# Altium schematic symbol library Sockets.SchLib: 49 symbols
Pins are listed as number, name and electrical type; pins without a type are passive.

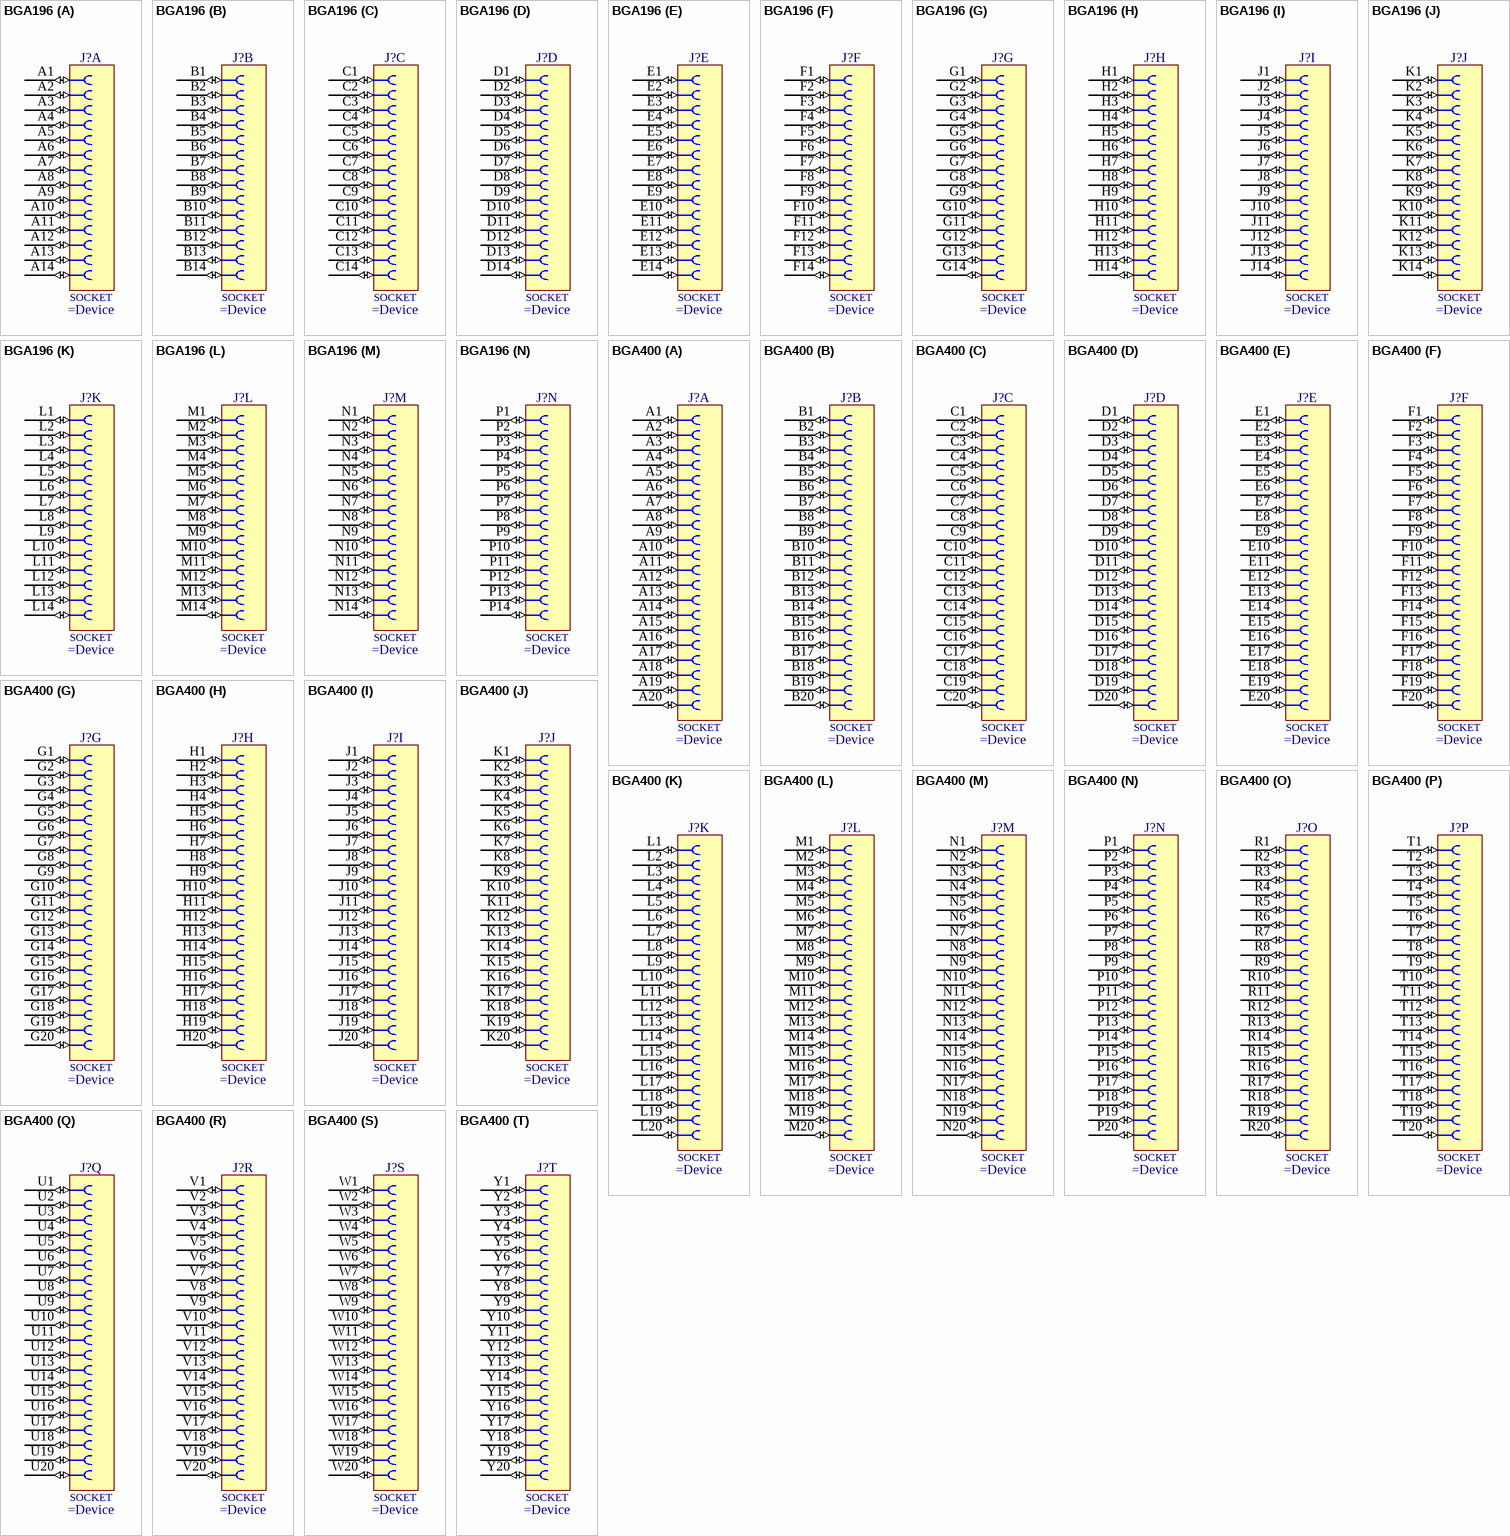
[diagram p0: symbols BGA196 to BGA400]

## BGA196
designator J?
196 Pins, Matrix 14x14, BGA Socket
part A pins: A1 1 (io), A2 2 (io), A3 3 (io), A4 4 (io), A5 5 (io), A6 6 (io), A7 7 (io), A8 8 (io), A9 9 (io), A10 10 (io), A11 11 (io), A12 12 (io), A13 13 (io), A14 14 (io)
part B pins: B1 15 (io), B2 16 (io), B3 17 (io), B4 18 (io), B5 19 (io), B6 20 (io), B7 21 (io), B8 22 (io), B9 23 (io), B10 24 (io), B11 25 (io), B12 26 (io), B13 27 (io), B14 28 (io)
part C pins: C1 29 (io), C2 30 (io), C3 31 (io), C4 32 (io), C5 33 (io), C6 34 (io), C7 35 (io), C8 36 (io), C9 37 (io), C10 38 (io), C11 39 (io), C12 40 (io), C13 41 (io), C14 42 (io)
part D pins: D1 43 (io), D2 44 (io), D3 45 (io), D4 46 (io), D5 47 (io), D6 48 (io), D7 49 (io), D8 50 (io), D9 51 (io), D10 52 (io), D11 53 (io), D12 54 (io), D13 55 (io), D14 56 (io)
part E pins: E1 57 (io), E2 58 (io), E3 59 (io), E4 60 (io), E5 61 (io), E6 62 (io), E7 63 (io), E8 64 (io), E9 65 (io), E10 66 (io), E11 67 (io), E12 68 (io), E13 69 (io), E14 70 (io)
part F pins: F1 71 (io), F2 72 (io), F3 73 (io), F4 74 (io), F5 75 (io), F6 76 (io), F7 77 (io), F8 78 (io), F9 79 (io), F10 80 (io), F11 81 (io), F12 82 (io), F13 83 (io), F14 84 (io)
part G pins: G1 85 (io), G2 86 (io), G3 87 (io), G4 88 (io), G5 89 (io), G6 90 (io), G7 91 (io), G8 92 (io), G9 93 (io), G10 94 (io), G11 95 (io), G12 96 (io), G13 97 (io), G14 98 (io)
part H pins: H1 99 (io), H2 10 (io), H3 101 (io), H4 102 (io), H5 103 (io), H6 104 (io), H7 105 (io), H8 106 (io), H9 107 (io), H10 108 (io), H11 109 (io), H12 110 (io), H13 111 (io), H14 112 (io)
part I pins: J1 113 (io), J2 114 (io), J3 115 (io), J4 116 (io), J5 117 (io), J6 118 (io), J7 119 (io), J8 120 (io), J9 121 (io), J10 122 (io), J11 123 (io), J12 124 (io), J13 125 (io), J14 126 (io)
part J pins: K1 127 (io), K2 128 (io), K3 129 (io), K4 130 (io), K5 131 (io), K6 132 (io), K7 133 (io), K8 134 (io), K9 135 (io), K10 136 (io), K11 137 (io), K12 138 (io), K13 139 (io), K14 140 (io)
part K pins: L1 141 (io), L2 142 (io), L3 143 (io), L4 144 (io), L5 145 (io), L6 146 (io), L7 147 (io), L8 148 (io), L9 149 (io), L10 150 (io), L11 151 (io), L12 152 (io), L13 153 (io), L14 154 (io)
part L pins: M1 155 (io), M2 156 (io), M3 157 (io), M4 158 (io), M5 159 (io), M6 160 (io), M7 161 (io), M8 162 (io), M9 163 (io), M10 164 (io), M11 165 (io), M12 166 (io), M13 167 (io), M14 168 (io)
part M pins: N1 169 (io), N2 170 (io), N3 171 (io), N4 172 (io), N5 173 (io), N6 174 (io), N7 175 (io), N8 176 (io), N9 177 (io), N10 178 (io), N11 179 (io), N12 180 (io), N13 181 (io), N14 182 (io)
part N pins: P1 183 (io), P2 184 (io), P3 185 (io), P4 186 (io), P5 187 (io), P6 188 (io), P7 189 (io), P8 190 (io), P9 191 (io), P10 192 (io), P11 193 (io), P12 194 (io), P13 195 (io), P14 196 (io)
part A text: SOCKET
part B text: SOCKET
part C text: SOCKET
part D text: SOCKET
part E text: SOCKET
part F text: SOCKET
part G text: SOCKET
part H text: SOCKET
part I text: SOCKET
part J text: SOCKET
part K text: SOCKET
part L text: SOCKET
part M text: SOCKET
part N text: SOCKET

## BGA400
designator J?
400 Pins, Matrix 20x20, BGA Quick Lock Socket
part A pins: A1 1 (io), A2 2 (io), A3 3 (io), A4 4 (io), A5 5 (io), A6 6 (io), A7 7 (io), A8 8 (io), A9 9 (io), A10 10 (io), A11 11 (io), A12 12 (io), A13 13 (io), A14 14 (io), A15 15 (io), A16 16 (io), A17 17 (io), A18 18 (io), A19 19 (io), A20 20 (io)
part B pins: B1 21 (io), B2 22 (io), B3 23 (io), B4 24 (io), B5 25 (io), B6 26 (io), B7 27 (io), B8 28 (io), B9 29 (io), B10 30 (io), B11 31 (io), B12 32 (io), B13 33 (io), B14 34 (io), B15 35 (io), B16 36 (io), B17 37 (io), B18 38 (io), B19 39 (io), B20 40 (io)
part C pins: C1 41 (io), C2 42 (io), C3 43 (io), C4 44 (io), C5 45 (io), C6 46 (io), C7 47 (io), C8 48 (io), C9 49 (io), C10 50 (io), C11 51 (io), C12 52 (io), C13 53 (io), C14 54 (io), C15 55 (io), C16 56 (io), C17 57 (io), C18 58 (io), C19 59 (io), C20 60 (io)
part D pins: D1 61 (io), D2 62 (io), D3 63 (io), D4 64 (io), D5 65 (io), D6 66 (io), D7 67 (io), D8 68 (io), D9 69 (io), D10 70 (io), D11 71 (io), D12 72 (io), D13 73 (io), D14 74 (io), D15 75 (io), D16 76 (io), D17 77 (io), D18 78 (io), D19 79 (io), D20 80 (io)
part E pins: E1 81 (io), E2 82 (io), E3 83 (io), E4 84 (io), E5 85 (io), E6 86 (io), E7 87 (io), E8 88 (io), E9 89 (io), E10 90 (io), E11 91 (io), E12 92 (io), E13 93 (io), E14 94 (io), E15 95 (io), E16 96 (io), E17 97 (io), E18 98 (io), E19 99 (io), E20 100 (io)
part F pins: F1 101 (io), F2 102 (io), F3 103 (io), F4 104 (io), F5 105 (io), F6 106 (io), F7 107 (io), F8 108 (io), F9 109 (io), F10 110 (io), F11 111 (io), F12 112 (io), F13 113 (io), F14 114 (io), F15 115 (io), F16 116 (io), F17 117 (io), F18 118 (io), F19 119 (io), F20 120 (io)
part G pins: G1 121 (io), G2 122 (io), G3 123 (io), G4 124 (io), G5 125 (io), G6 126 (io), G7 127 (io), G8 128 (io), G9 129 (io), G10 130 (io), G11 131 (io), G12 132 (io), G13 133 (io), G14 134 (io), G15 135 (io), G16 136 (io), G17 137 (io), G18 138 (io), G19 139 (io), G20 140 (io)
part H pins: H1 141 (io), H2 142 (io), H3 143 (io), H4 144 (io), H5 145 (io), H6 146 (io), H7 147 (io), H8 148 (io), H9 149 (io), H10 150 (io), H11 151 (io), H12 152 (io), H13 153 (io), H14 154 (io), H15 155 (io), H16 156 (io), H17 157 (io), H18 158 (io), H19 159 (io), H20 160 (io)
part I pins: J1 161 (io), J2 162 (io), J3 163 (io), J4 164 (io), J5 165 (io), J6 166 (io), J7 167 (io), J8 168 (io), J9 169 (io), J10 170 (io), J11 171 (io), J12 172 (io), J13 173 (io), J14 174 (io), J15 175 (io), J16 176 (io), J17 177 (io), J18 178 (io), J19 179 (io), J20 180 (io)
part J pins: K1 181 (io), K2 182 (io), K3 183 (io), K4 184 (io), K5 185 (io), K6 186 (io), K7 187 (io), K8 188 (io), K9 189 (io), K10 190 (io), K11 191 (io), K12 192 (io), K13 193 (io), K14 194 (io), K15 195 (io), K16 196 (io), K17 197 (io), K18 198 (io), K19 199 (io), K20 200 (io)
part K pins: L1 201 (io), L2 202 (io), L3 203 (io), L4 204 (io), L5 205 (io), L6 206 (io), L7 207 (io), L8 208 (io), L9 209 (io), L10 210 (io), L11 211 (io), L12 212 (io), L13 213 (io), L14 214 (io), L15 215 (io), L16 216 (io), L17 217 (io), L18 218 (io), L19 219 (io), L20 220 (io)
part L pins: M1 221 (io), M2 222 (io), M3 223 (io), M4 224 (io), M5 225 (io), M6 226 (io), M7 227 (io), M8 228 (io), M9 229 (io), M10 230 (io), M11 231 (io), M12 232 (io), M13 233 (io), M14 234 (io), M15 235 (io), M16 236 (io), M17 237 (io), M18 238 (io), M19 239 (io), M20 240 (io)
part M pins: N1 241 (io), N2 242 (io), N3 243 (io), N4 244 (io), N5 245 (io), N6 246 (io), N7 247 (io), N8 248 (io), N9 249 (io), N10 250 (io), N11 251 (io), N12 252 (io), N13 253 (io), N14 254 (io), N15 255 (io), N16 256 (io), N17 257 (io), N18 258 (io), N19 259 (io), N20 260 (io)
part N pins: P1 261 (io), P2 262 (io), P3 263 (io), P4 264 (io), P5 265 (io), P6 266 (io), P7 267 (io), P8 268 (io), P9 269 (io), P10 270 (io), P11 271 (io), P12 272 (io), P13 273 (io), P14 274 (io), P15 275 (io), P16 276 (io), P17 277 (io), P18 278 (io), P19 279 (io), P20 280 (io)
part O pins: R1 281 (io), R2 282 (io), R3 283 (io), R4 284 (io), R5 285 (io), R6 286 (io), R7 287 (io), R8 288 (io), R9 289 (io), R10 290 (io), R11 291 (io), R12 292 (io), R13 293 (io), R14 294 (io), R15 295 (io), R16 296 (io), R17 297 (io), R18 298 (io), R19 299 (io), R20 300 (io)
part P pins: T1 301 (io), T2 302 (io), T3 303 (io), T4 304 (io), T5 305 (io), T6 306 (io), T7 307 (io), T8 308 (io), T9 309 (io), T10 310 (io), T11 311 (io), T12 312 (io), T13 313 (io), T14 314 (io), T15 315 (io), T16 316 (io), T17 317 (io), T18 318 (io), T19 319 (io), T20 320 (io)
part Q pins: U1 321 (io), U2 322 (io), U3 323 (io), U4 324 (io), U5 325 (io), U6 326 (io), U7 327 (io), U8 328 (io), U9 329 (io), U10 330 (io), U11 331 (io), U12 332 (io), U13 333 (io), U14 334 (io), U15 335 (io), U16 336 (io), U17 337 (io), U18 338 (io), U19 339 (io), U20 340 (io)
part R pins: V1 341 (io), V2 342 (io), V3 343 (io), V4 344 (io), V5 345 (io), V6 346 (io), V7 347 (io), V8 348 (io), V9 349 (io), V10 350 (io), V11 351 (io), V12 352 (io), V13 353 (io), V14 354 (io), V15 355 (io), V16 356 (io), V17 357 (io), V18 358 (io), V19 359 (io), V20 360 (io)
part S pins: W1 361 (io), W2 362 (io), W3 363 (io), W4 364 (io), W5 365 (io), W6 366 (io), W7 367 (io), W8 368 (io), W9 369 (io), W10 370 (io), W11 371 (io), W12 372 (io), W13 373 (io), W14 374 (io), W15 375 (io), W16 376 (io), W17 377 (io), W18 378 (io), W19 379 (io), W20 380 (io)
part T pins: Y1 381 (io), Y2 382 (io), Y3 383 (io), Y4 384 (io), Y5 385 (io), Y6 386 (io), Y7 387 (io), Y8 388 (io), Y9 389 (io), Y10 390 (io), Y11 391 (io), Y12 392 (io), Y13 393 (io), Y14 394 (io), Y15 395 (io), Y16 396 (io), Y17 397 (io), Y18 398 (io), Y19 399 (io), Y20 400 (io)
part A text: SOCKET
part B text: SOCKET
part C text: SOCKET
part D text: SOCKET
part E text: SOCKET
part F text: SOCKET
part G text: SOCKET
part H text: SOCKET
part I text: SOCKET
part J text: SOCKET
part K text: SOCKET
part L text: SOCKET
part M text: SOCKET
part N text: SOCKET
part O text: SOCKET
part P text: SOCKET
part Q text: SOCKET
part R text: SOCKET
part S text: SOCKET
part T text: SOCKET

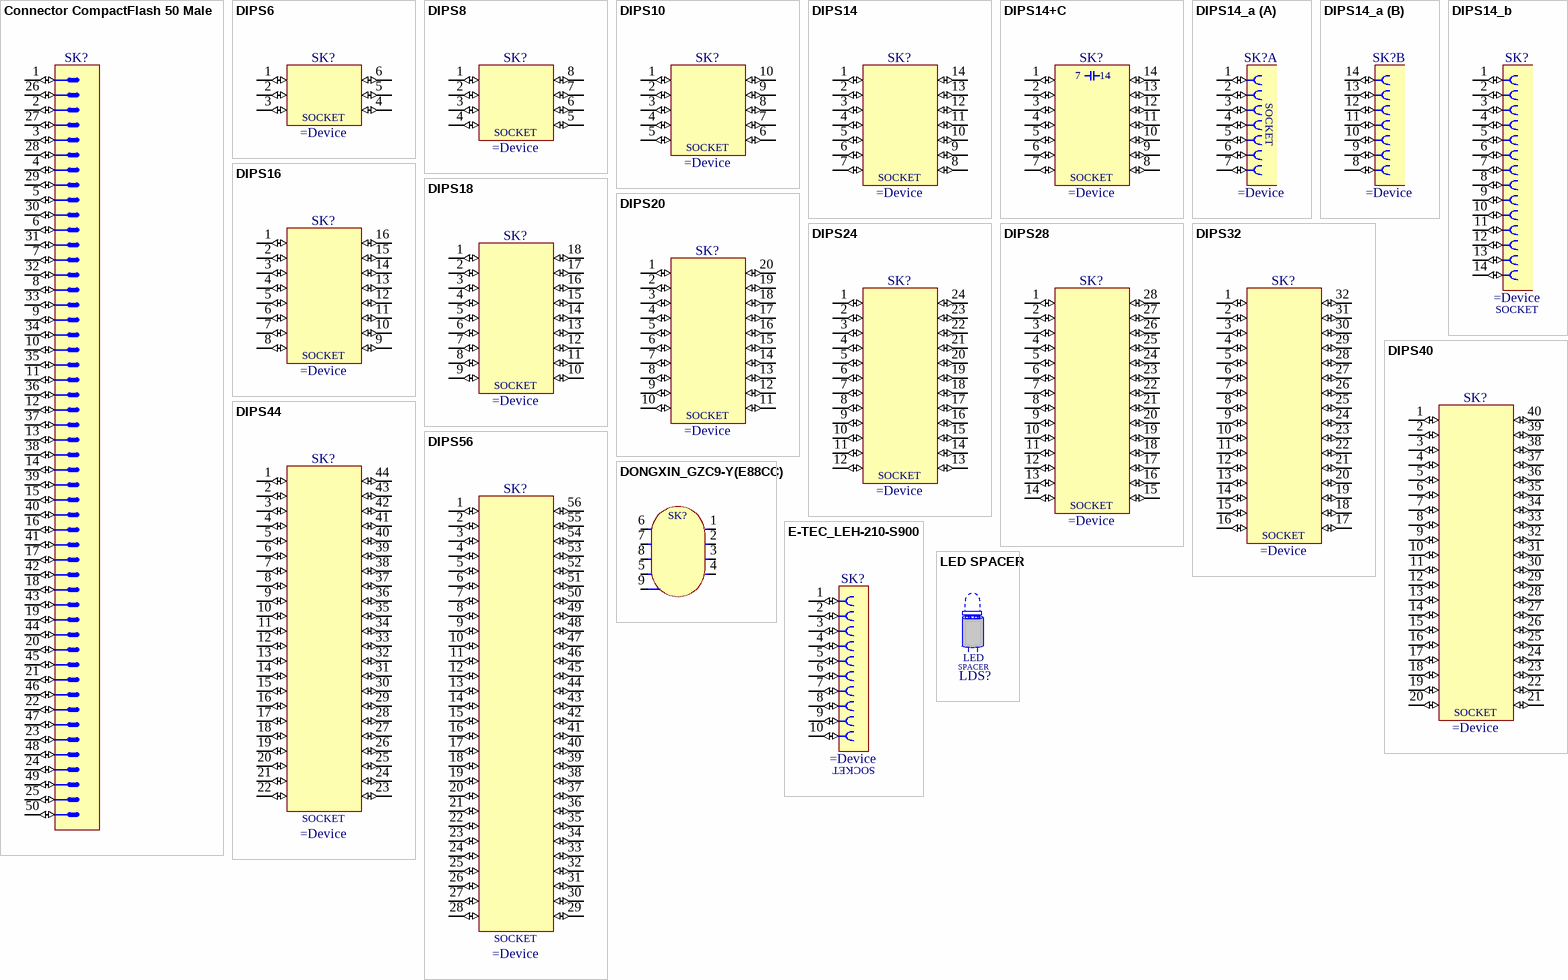
[diagram p1: symbols Connector CompactFlash 50 Male to LED SPACER]

## Connector CompactFlash 50 Male
designator SK?
Connector CompactFlash 50 Male
pins: 1 (io), 2 (io), 3 (io), 4 (io), 5 (io), 6 (io), 7 (io), 8 (io), 9 (io), 10 (io), 11 (io), 12 (io), 13 (io), 14 (io), 15 (io), 16 (io), 17 (io), 18 (io), 19 (io), 20 (io), 21 (io), 22 (io), 23 (io), 24 (io), 25 (io), 26 (io), 27 (io), 28 (io), 29 (io), 30 (io), 31 (io), 32 (io), 33 (io), 34 (io), 35 (io), 36 (io), 37 (io), 38 (io), 39 (io), 40 (io), 41 (io), 42 (io), 43 (io), 44 (io), 45 (io), 46 (io), 47 (io), 48 (io), 49 (io), 50 (io)
1 alternate drawing of the same symbol

## DIPS6
designator SK?
DIL Socket 6 Leads
pins: 1 (io), 2 (io), 3 (io), 4 (io), 5 (io), 6 (io)
text: SOCKET

## DIPS8
designator SK?
DIL Socket 8 Leads
pins: 1 (io), 2 (io), 3 (io), 4 (io), 5 (io), 6 (io), 7 (io), 8 (io)
text: SOCKET

## DIPS10
designator SK?
DIL Socket 10 Leads
pins: 1 (io), 2 (io), 3 (io), 4 (io), 5 (io), 6 (io), 7 (io), 8 (io), 9 (io), 10 (io)
text: SOCKET

## DIPS14
designator SK?
DIL Socket 14 Leads
pins: 1 (io), 2 (io), 3 (io), 4 (io), 5 (io), 6 (io), 7 (io), 8 (io), 9 (io), 10 (io), 11 (io), 12 (io), 13 (io), 14 (io)
text: SOCKET

## DIPS14+C
designator SK?
DIL Socket 14 Leads with Decoupling Capacitor
pins: 1 (io), 2 (io), 3 (io), 4 (io), 5 (io), 6 (io), 7 (io), 8 (io), 9 (io), 10 (io), 11 (io), 12 (io), 13 (io), 14 (io)
text: SOCKET

## DIPS14_a
designator SK?
Horizontal DIP Socket 14 Leads, Row Spacing 7.62mm; Pitch 2.54 mm
part A pins: 1 (io), 2 (io), 3 (io), 4 (io), 5 (io), 6 (io), 7 (io)
part B pins: 8 (io), 9 (io), 10 (io), 11 (io), 12 (io), 13 (io), 14 (io)
part A text: SOCKET

## DIPS14_b
designator SK?
DIL Socket 14 Leads
pins: 1 (io), 2 (io), 3 (io), 4 (io), 5 (io), 6 (io), 7 (io), 8 (io), 9 (io), 10 (io), 11 (io), 12 (io), 13 (io), 14 (io)
text: SOCKET

## DIPS16
designator SK?
DIL Socket 16 Leads
pins: 1 (io), 2 (io), 3 (io), 4 (io), 5 (io), 6 (io), 7 (io), 8 (io), 9 (io), 10 (io), 11 (io), 12 (io), 13 (io), 14 (io), 15 (io), 16 (io)
text: SOCKET

## DIPS18
designator SK?
DIL Socket 18 Leads
pins: 1 (io), 2 (io), 3 (io), 4 (io), 5 (io), 6 (io), 7 (io), 8 (io), 9 (io), 10 (io), 11 (io), 12 (io), 13 (io), 14 (io), 15 (io), 16 (io), 17 (io), 18 (io)
text: SOCKET

## DIPS20
designator SK?
DIL Socket 20 Leads
pins: 1 (io), 2 (io), 3 (io), 4 (io), 5 (io), 6 (io), 7 (io), 8 (io), 9 (io), 10 (io), 11 (io), 12 (io), 13 (io), 14 (io), 15 (io), 16 (io), 17 (io), 18 (io), 19 (io), 20 (io)
text: SOCKET

## DIPS24
designator SK?
DIL Socket 24 Leads
pins: 1 (io), 2 (io), 3 (io), 4 (io), 5 (io), 6 (io), 7 (io), 8 (io), 9 (io), 10 (io), 11 (io), 12 (io), 13 (io), 14 (io), 15 (io), 16 (io), 17 (io), 18 (io), 19 (io), 20 (io), 21 (io), 22 (io), 23 (io), 24 (io)
text: SOCKET

## DIPS28
designator SK?
DIL Socket 28 Leads
pins: 1 (io), 2 (io), 3 (io), 4 (io), 5 (io), 6 (io), 7 (io), 8 (io), 9 (io), 10 (io), 11 (io), 12 (io), 13 (io), 14 (io), 15 (io), 16 (io), 17 (io), 18 (io), 19 (io), 20 (io), 21 (io), 22 (io), 23 (io), 24 (io), 25 (io), 26 (io), 27 (io), 28 (io)
text: SOCKET

## DIPS32
designator SK?
DIL Socket 32 Leads
pins: 1 (io), 2 (io), 3 (io), 4 (io), 5 (io), 6 (io), 7 (io), 8 (io), 9 (io), 10 (io), 11 (io), 12 (io), 13 (io), 14 (io), 15 (io), 16 (io), 17 (io), 18 (io), 19 (io), 20 (io), 21 (io), 22 (io), 23 (io), 24 (io), 25 (io), 26 (io), 27 (io), 28 (io), 29 (io), 30 (io), 31 (io), 32 (io)
text: SOCKET

## DIPS40
designator SK?
DIL Socket 40 Leads
pins: 1 (io), 2 (io), 3 (io), 4 (io), 5 (io), 6 (io), 7 (io), 8 (io), 9 (io), 10 (io), 11 (io), 12 (io), 13 (io), 14 (io), 15 (io), 16 (io), 17 (io), 18 (io), 19 (io), 20 (io), 21 (io), 22 (io), 23 (io), 24 (io), 25 (io), 26 (io), 27 (io), 28 (io), 29 (io), 30 (io), 31 (io), 32 (io), 33 (io), 34 (io), 35 (io), 36 (io), 37 (io), 38 (io), 39 (io), 40 (io)
text: SOCKET

## DIPS44
designator SK?
DIL Socket 44 Leads
pins: 1 (io), 2 (io), 3 (io), 4 (io), 5 (io), 6 (io), 7 (io), 8 (io), 9 (io), 10 (io), 11 (io), 12 (io), 13 (io), 14 (io), 15 (io), 16 (io), 17 (io), 18 (io), 19 (io), 20 (io), 21 (io), 22 (io), 23 (io), 24 (io), 25 (io), 26 (io), 27 (io), 28 (io), 29 (io), 30 (io), 31 (io), 32 (io), 33 (io), 34 (io), 35 (io), 36 (io), 37 (io), 38 (io), 39 (io), 40 (io), 41 (io), 42 (io), 43 (io), 44 (io)
text: SOCKET

## DIPS56
designator SK?
DIL Socket 56 Leads
pins: 1 (io), 2 (io), 3 (io), 4 (io), 5 (io), 6 (io), 7 (io), 8 (io), 9 (io), 10 (io), 11 (io), 12 (io), 13 (io), 14 (io), 15 (io), 16 (io), 17 (io), 18 (io), 19 (io), 20 (io), 21 (io), 22 (io), 23 (io), 24 (io), 25 (io), 26 (io), 27 (io), 28 (io), 29 (io), 30 (io), 31 (io), 32 (io), 33 (io), 34 (io), 35 (io), 36 (io), 37 (io), 38 (io), 39 (io), 40 (io), 41 (io), 42 (io), 43 (io), 44 (io), 45 (io), 46 (io), 47 (io), 48 (io), 49 (io), 50 (io), 51 (io), 52 (io), 53 (io), 54 (io), 55 (io), 56 (io)
text: SOCKET

## DONGXIN_GZC9-Y(E88CC)
designator SK?
DONGXIN_GZC9-Y for E88CC Triode
pins: 1 a', 2 g', 3 k', 4 f, 5 f, 6 a, 7 g, 8 k, 9 fc

## E-TEC_LEH-210-S900
designator SK?
Horizontal DIP Socket 10 Leads, Row Spacing 5.08 mm; Pitch 2.54 mm
pins: 1 (io), 2 (io), 3 (io), 4 (io), 5 (io), 6 (io), 7 (io), 8 (io), 9 (io), 10 (io)
text: SOCKET

## LED SPACER
designator LDS?
LED Orange 1C 2A
text: LED; SPACER

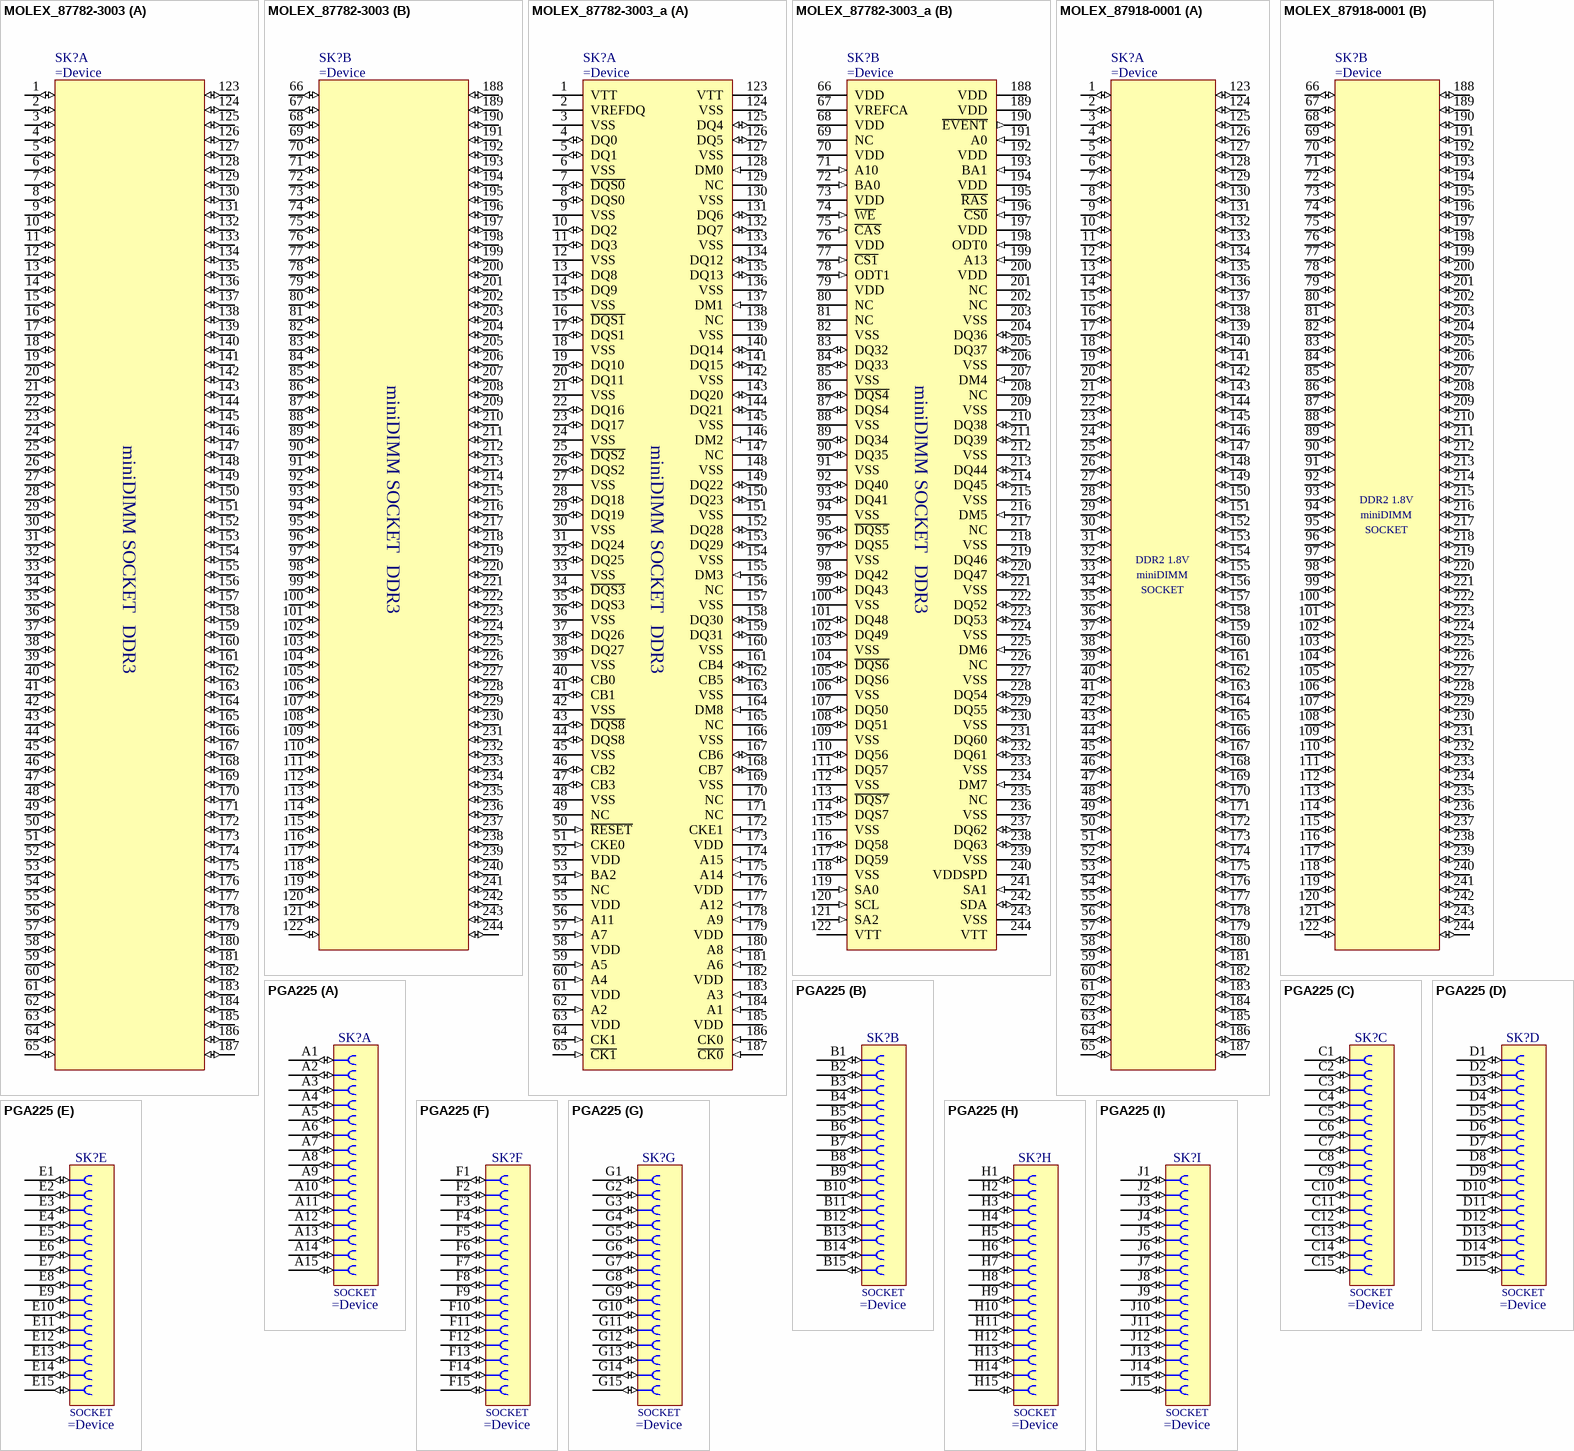
[diagram p2: symbols MOLEX_87782-3003 to PGA225]

## MOLEX_87782-3003
designator SK?
Vertical 244 Positions miniDIMM DDR3 Socket
part A pins: 1 (io), 2 (io), 3 (io), 4 (io), 5 (io), 6 (io), 7 (io), 8 (io), 9 (io), 10 (io), 11 (io), 12 (io), 13 (io), 14 (io), 15 (io), 16 (io), 17 (io), 18 (io), 19 (io), 20 (io), 21 (io), 22 (io), 23 (io), 24 (io), 25 (io), 26 (io), 27 (io), 28 (io), 29 (io), 30 (io), 31 (io), 32 (io), 33 (io), 34 (io), 35 (io), 36 (io), 37 (io), 38 (io), 39 (io), 40 (io), 41 (io), 42 (io), 43 (io), 44 (io), 45 (io), 46 (io), 47 (io), 48 (io), 49 (io), 50 (io), 51 (io), 52 (io), 53 (io), 54 (io), 55 (io), 56 (io), 57 (io), 58 (io), 59 (io), 60 (io), 61 (io), 62 (io), 63 (io), 64 (io), 65 (io), 123 (io), 124 (io), 125 (io), 126 (io), 127 (io), 128 (io), 129 (io), 130 (io), 131 (io), 132 (io), 133 (io), 134 (io), 135 (io), 136 (io), 137 (io), 138 (io), 139 (io), 140 (io), 141 (io), 142 (io), 143 (io), 144 (io), 145 (io), 146 (io), 147 (io), 148 (io), 149 (io), 150 (io), 151 (io), 152 (io), 153 (io), 154 (io), 155 (io), 156 (io), 157 (io), 158 (io), 159 (io), 160 (io), 161 (io), 162 (io), 163 (io), 164 (io), 165 (io), 166 (io), 167 (io), 168 (io), 169 (io), 170 (io), 171 (io), 172 (io), 173 (io), 174 (io), 175 (io), 176 (io), 177 (io), 178 (io), 179 (io), 180 (io), 181 (io), 182 (io), 183 (io), 184 (io), 185 (io), 186 (io), 187 (io)
part B pins: 66 (io), 67 (io), 68 (io), 69 (io), 70 (io), 71 (io), 72 (io), 73 (io), 74 (io), 75 (io), 76 (io), 77 (io), 78 (io), 79 (io), 80 (io), 81 (io), 82 (io), 83 (io), 84 (io), 85 (io), 86 (io), 87 (io), 88 (io), 89 (io), 90 (io), 91 (io), 92 (io), 93 (io), 94 (io), 95 (io), 96 (io), 97 (io), 98 (io), 99 (io), 100 (io), 101 (io), 102 (io), 103 (io), 104 (io), 105 (io), 106 (io), 107 (io), 108 (io), 109 (io), 110 (io), 111 (io), 112 (io), 113 (io), 114 (io), 115 (io), 116 (io), 117 (io), 118 (io), 119 (io), 120 (io), 121 (io), 122 (io), 188 (io), 189 (io), 190 (io), 191 (io), 192 (io), 193 (io), 194 (io), 195 (io), 196 (io), 197 (io), 198 (io), 199 (io), 200 (io), 201 (io), 202 (io), 203 (io), 204 (io), 205 (io), 206 (io), 207 (io), 208 (io), 209 (io), 210 (io), 211 (io), 212 (io), 213 (io), 214 (io), 215 (io), 216 (io), 217 (io), 218 (io), 219 (io), 220 (io), 221 (io), 222 (io), 223 (io), 224 (io), 225 (io), 226 (io), 227 (io), 228 (io), 229 (io), 230 (io), 231 (io), 232 (io), 233 (io), 234 (io), 235 (io), 236 (io), 237 (io), 238 (io), 239 (io), 240 (io), 241 (io), 242 (io), 243 (io), 244 (io)
part A text: miniDIMM SOCKET; DDR3
part B text: miniDIMM SOCKET; DDR3

## MOLEX_87782-3003_a
designator SK?
Vertical 244 Positions miniDIMM DDR3 Socket
part A pins: 1 VTT (power), 2 VREFDQ (power), 3 VSS (power), 4 DQ0 (io), 5 DQ1 (io), 6 VSS (power), 7 ~{DQS0} (io), 8 DQS0 (io), 9 VSS (power), 10 DQ2 (io), 11 DQ3 (io), 12 VSS (power), 13 DQ8 (io), 14 DQ9 (io), 15 VSS (power), 16 ~{DQS1} (io), 17 DQS1 (io), 18 VSS (power), 19 DQ10 (io), 20 DQ11 (io), 21 VSS (power), 22 DQ16 (io), 23 DQ17 (io), 24 VSS (power), 25 ~{DQS2} (io), 26 DQS2 (io), 27 VSS (power), 28 DQ18 (io), 29 DQ19 (io), 30 VSS (power), 31 DQ24 (io), 32 DQ25 (io), 33 VSS (power), 34 ~{DQS3} (io), 35 DQS3 (io), 36 VSS (power), 37 DQ26 (io), 38 DQ27 (io), 39 VSS (power), 40 CB0 (io), 41 CB1 (io), 42 VSS (power), 43 ~{DQS8} (io), 44 DQS8 (io), 45 VSS (power), 46 CB2 (io), 47 CB3 (io), 48 VSS (power), 49 NC, 50 ~{RESET} (in), 51 CKE0 (in), 52 VDD (power), 53 BA2 (in), 54 NC, 55 VDD (power), 56 A11 (in), 57 A7 (in), 58 VDD (power), 59 A5 (in), 60 A4 (in), 61 VDD (power), 62 A2 (in), 63 VDD (power), 64 CK1 (in), 65 ~{CK1} (in), 123 VTT (power), 124 VSS (power), 125 DQ4 (io), 126 DQ5 (io), 127 VSS (power), 128 DM0 (in), 129 NC, 130 VSS (power), 131 DQ6 (io), 132 DQ7 (io), 133 VSS (power), 134 DQ12 (io), 135 DQ13 (io), 136 VSS (power), 137 DM1 (in), 138 NC, 139 VSS (power), 140 DQ14 (io), 141 DQ15 (io), 142 VSS (power), 143 DQ20 (io), 144 DQ21 (io), 145 VSS (power), 146 DM2 (in), 147 NC, 148 VSS (power), 149 DQ22 (io), 150 DQ23 (io), 151 VSS (power), 152 DQ28 (io), 153 DQ29 (io), 154 VSS (power), 155 DM3 (in), 156 NC, 157 VSS (power), 158 DQ30 (io), 159 DQ31 (io), 160 VSS (power), 161 CB4 (io), 162 CB5 (io), 163 VSS (power), 164 DM8 (in), 165 NC, 166 VSS (power), 167 CB6 (io), 168 CB7 (io), 169 VSS (power), 170 NC, 171 NC, 172 CKE1 (in), 173 VDD (power), 174 A15 (in), 175 A14 (in), 176 VDD (power), 177 A12 (in), 178 A9 (in), 179 VDD (power), 180 A8 (in), 181 A6 (in), 182 VDD (power), 183 A3 (in), 184 A1 (in), 185 VDD (power), 186 CK0 (in), 187 ~{CK0} (in)
part B pins: 66 VDD (power), 67 VREFCA (power), 68 VDD (power), 69 NC, 70 VDD (power), 71 A10 (in), 72 BA0 (in), 73 VDD (power), 74 ~{WE} (in), 75 ~{CAS} (in), 76 VDD (power), 77 ~{CS1} (in), 78 ODT1 (in), 79 VDD (power), 80 NC, 81 NC, 82 VSS (power), 83 DQ32 (io), 84 DQ33 (io), 85 VSS (power), 86 ~{DQS4} (io), 87 DQS4 (io), 88 VSS (power), 89 DQ34 (io), 90 DQ35 (io), 91 VSS (power), 92 DQ40 (io), 93 DQ41 (io), 94 VSS (power), 95 ~{DQS5} (io), 96 DQS5 (io), 97 VSS (power), 98 DQ42 (io), 99 DQ43 (io), 100 VSS (power), 101 DQ48 (io), 102 DQ49 (io), 103 VSS (power), 104 ~{DQS6} (io), 105 DQS6 (io), 106 VSS (power), 107 DQ50 (io), 108 DQ51 (io), 109 VSS (power), 110 DQ56 (io), 111 DQ57 (io), 112 VSS (power), 113 ~{DQS7} (io), 114 DQS7 (io), 115 VSS (power), 116 DQ58 (io), 117 DQ59 (io), 118 VSS (power), 119 SA0 (in), 120 SCL (in), 121 SA2 (in), 122 VTT (power), 188 VDD (power), 189 VDD (power), 190 ~{EVENT} (out), 191 A0 (in), 192 VDD (power), 193 BA1 (in), 194 VDD (power), 195 ~{RAS} (in), 196 ~{CS0} (in), 197 VDD (power), 198 ODT0 (in), 199 A13 (in), 200 VDD (power), 201 NC, 202 NC, 203 VSS (power), 204 DQ36 (io), 205 DQ37 (io), 206 VSS (power), 207 DM4 (in), 208 NC, 209 VSS (power), 210 DQ38 (io), 211 DQ39 (io), 212 VSS (power), 213 DQ44 (io), 214 DQ45 (io), 215 VSS (power), 216 DM5 (in), 217 NC, 218 VSS (power), 219 DQ46 (io), 220 DQ47 (io), 221 VSS (power), 222 DQ52 (io), 223 DQ53 (io), 224 VSS (power), 225 DM6 (in), 226 NC, 227 VSS (power), 228 DQ54 (io), 229 DQ55 (io), 230 VSS (power), 231 DQ60 (io), 232 DQ61 (io), 233 VSS (power), 234 DM7 (in), 235 NC, 236 VSS (power), 237 DQ62 (io), 238 DQ63 (io), 239 VSS (power), 240 VDDSPD (power), 241 SA1 (in), 242 SDA (io), 243 VSS (power), 244 VTT (power)
part A text: miniDIMM SOCKET; DDR3
part B text: miniDIMM SOCKET; DDR3

## MOLEX_87918-0001
designator SK?
miniDIMM DDR2 Socket, 1.8V Key, 244 Circuits
part A pins: 1 (io), 2 (io), 3 (io), 4 (io), 5 (io), 6 (io), 7 (io), 8 (io), 9 (io), 10 (io), 11 (io), 12 (io), 13 (io), 14 (io), 15 (io), 16 (io), 17 (io), 18 (io), 19 (io), 20 (io), 21 (io), 22 (io), 23 (io), 24 (io), 25 (io), 26 (io), 27 (io), 28 (io), 29 (io), 30 (io), 31 (io), 32 (io), 33 (io), 34 (io), 35 (io), 36 (io), 37 (io), 38 (io), 39 (io), 40 (io), 41 (io), 42 (io), 43 (io), 44 (io), 45 (io), 46 (io), 47 (io), 48 (io), 49 (io), 50 (io), 51 (io), 52 (io), 53 (io), 54 (io), 55 (io), 56 (io), 57 (io), 58 (io), 59 (io), 60 (io), 61 (io), 62 (io), 63 (io), 64 (io), 65 (io), 123 (io), 124 (io), 125 (io), 126 (io), 127 (io), 128 (io), 129 (io), 130 (io), 131 (io), 132 (io), 133 (io), 134 (io), 135 (io), 136 (io), 137 (io), 138 (io), 139 (io), 140 (io), 141 (io), 142 (io), 143 (io), 144 (io), 145 (io), 146 (io), 147 (io), 148 (io), 149 (io), 150 (io), 151 (io), 152 (io), 153 (io), 154 (io), 155 (io), 156 (io), 157 (io), 158 (io), 159 (io), 160 (io), 161 (io), 162 (io), 163 (io), 164 (io), 165 (io), 166 (io), 167 (io), 168 (io), 169 (io), 170 (io), 171 (io), 172 (io), 173 (io), 174 (io), 175 (io), 176 (io), 177 (io), 178 (io), 179 (io), 180 (io), 181 (io), 182 (io), 183 (io), 184 (io), 185 (io), 186 (io), 187 (io)
part B pins: 66 (io), 67 (io), 68 (io), 69 (io), 70 (io), 71 (io), 72 (io), 73 (io), 74 (io), 75 (io), 76 (io), 77 (io), 78 (io), 79 (io), 80 (io), 81 (io), 82 (io), 83 (io), 84 (io), 85 (io), 86 (io), 87 (io), 88 (io), 89 (io), 90 (io), 91 (io), 92 (io), 93 (io), 94 (io), 95 (io), 96 (io), 97 (io), 98 (io), 99 (io), 100 (io), 101 (io), 102 (io), 103 (io), 104 (io), 105 (io), 106 (io), 107 (io), 108 (io), 109 (io), 110 (io), 111 (io), 112 (io), 113 (io), 114 (io), 115 (io), 116 (io), 117 (io), 118 (io), 119 (io), 120 (io), 121 (io), 122 (io), 188 (io), 189 (io), 190 (io), 191 (io), 192 (io), 193 (io), 194 (io), 195 (io), 196 (io), 197 (io), 198 (io), 199 (io), 200 (io), 201 (io), 202 (io), 203 (io), 204 (io), 205 (io), 206 (io), 207 (io), 208 (io), 209 (io), 210 (io), 211 (io), 212 (io), 213 (io), 214 (io), 215 (io), 216 (io), 217 (io), 218 (io), 219 (io), 220 (io), 221 (io), 222 (io), 223 (io), 224 (io), 225 (io), 226 (io), 227 (io), 228 (io), 229 (io), 230 (io), 231 (io), 232 (io), 233 (io), 234 (io), 235 (io), 236 (io), 237 (io), 238 (io), 239 (io), 240 (io), 241 (io), 242 (io), 243 (io), 244 (io)
part A text: DDR2 1.8V; miniDIMM; SOCKET
part B text: DDR2 1.8V; miniDIMM; SOCKET

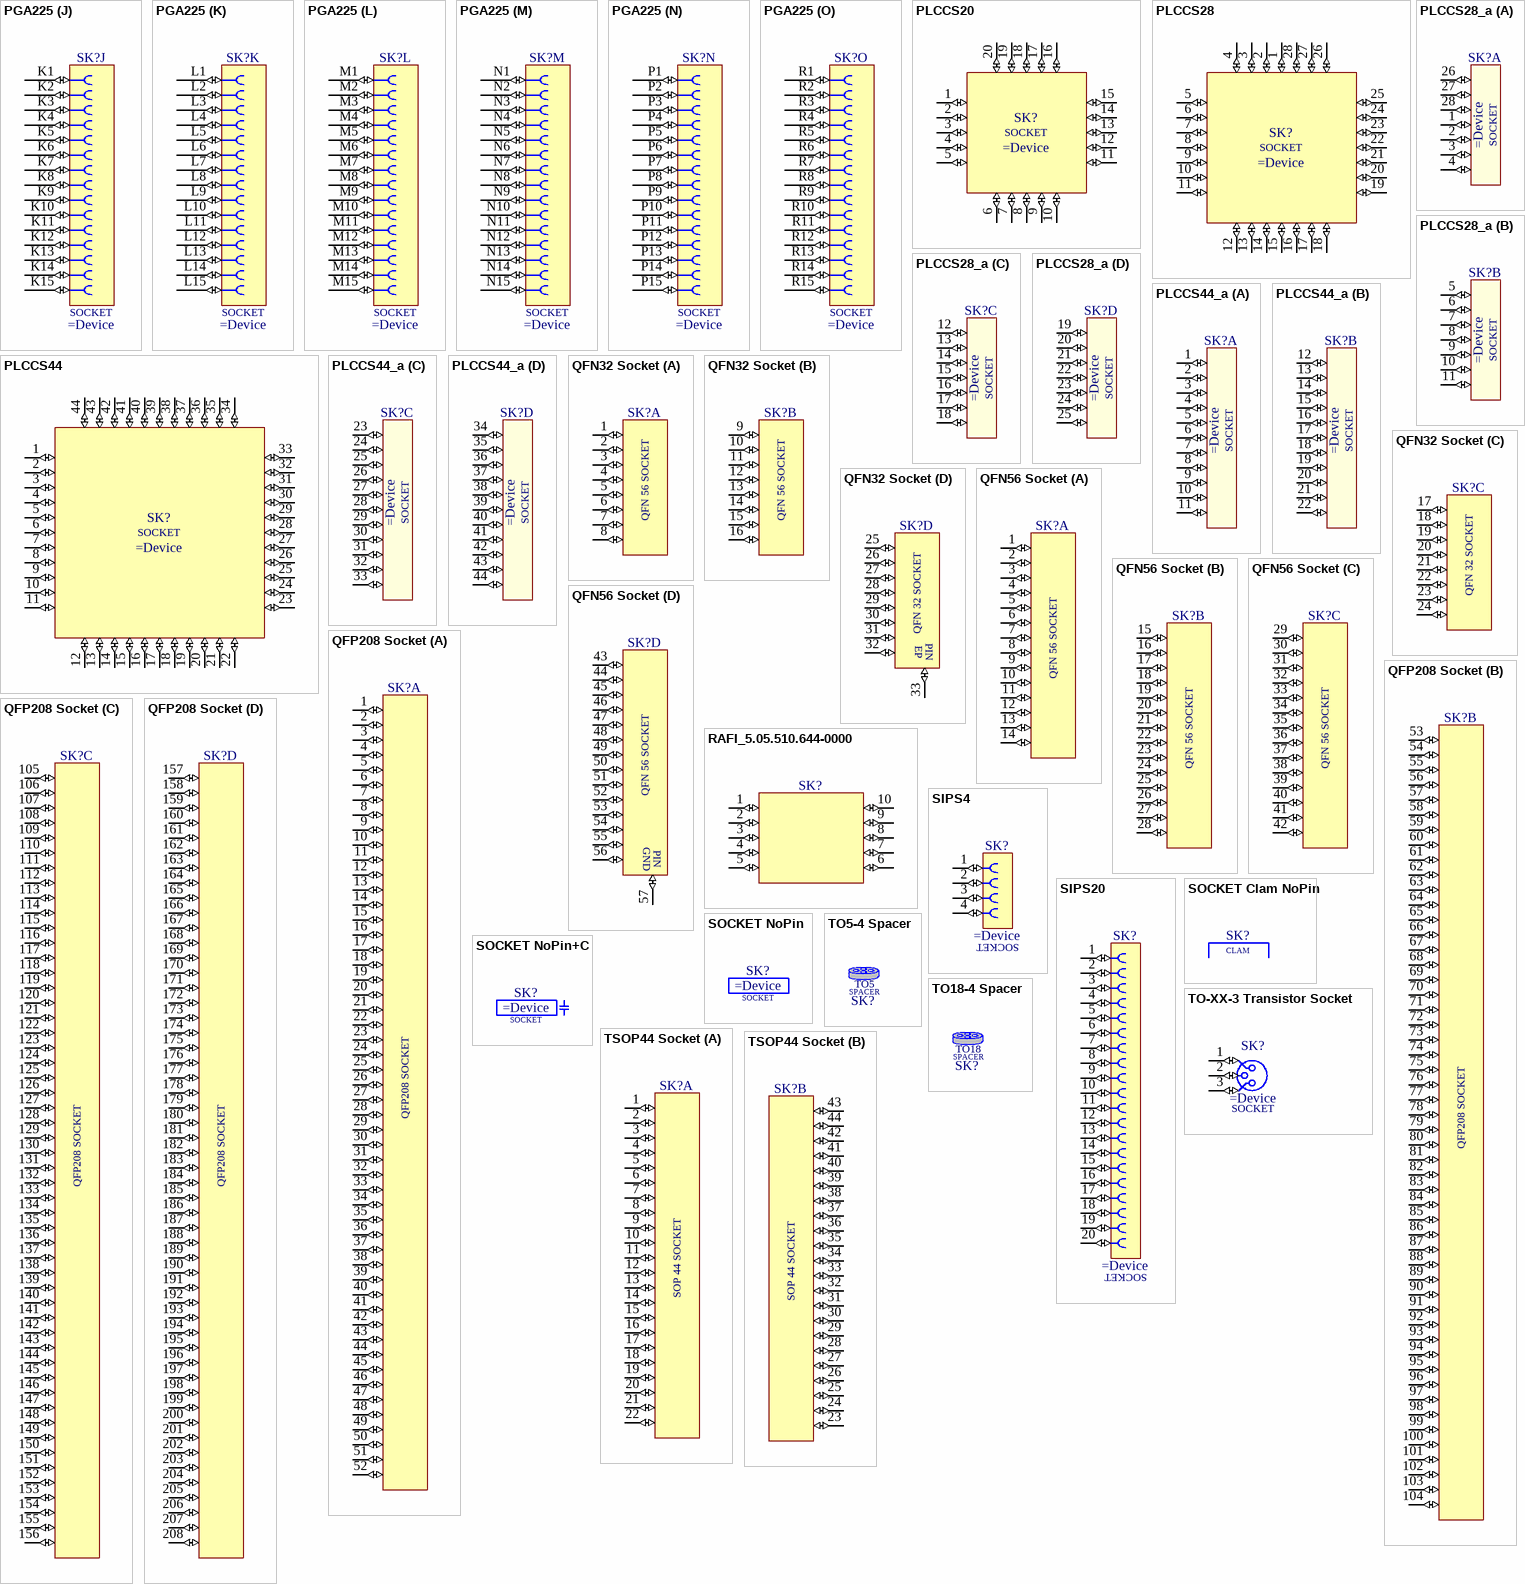
[diagram p3: symbols PGA225 to TSOP44 Socket]

## PGA225
designator SK?
225 Pins, Matrix 15x15, PGA Quick Lock Socket
part A pins: A1 1 (io), A2 2 (io), A3 3 (io), A4 4 (io), A5 5 (io), A6 6 (io), A7 7 (io), A8 8 (io), A9 9 (io), A10 10 (io), A11 11 (io), A12 12 (io), A13 13 (io), A14 14 (io), A15 15 (io)
part B pins: B1 21 (io), B2 22 (io), B3 23 (io), B4 24 (io), B5 25 (io), B6 26 (io), B7 27 (io), B8 28 (io), B9 29 (io), B10 30 (io), B11 31 (io), B12 32 (io), B13 33 (io), B14 34 (io), B15 35 (io)
part C pins: C1 41 (io), C2 42 (io), C3 43 (io), C4 44 (io), C5 45 (io), C6 46 (io), C7 47 (io), C8 48 (io), C9 49 (io), C10 50 (io), C11 51 (io), C12 52 (io), C13 53 (io), C14 54 (io), C15 55 (io)
part D pins: D1 61 (io), D2 62 (io), D3 63 (io), D4 64 (io), D5 65 (io), D6 66 (io), D7 67 (io), D8 68 (io), D9 69 (io), D10 70 (io), D11 71 (io), D12 72 (io), D13 73 (io), D14 74 (io), D15 75 (io)
part E pins: E1 81 (io), E2 82 (io), E3 83 (io), E4 84 (io), E5 85 (io), E6 86 (io), E7 87 (io), E8 88 (io), E9 89 (io), E10 90 (io), E11 91 (io), E12 92 (io), E13 93 (io), E14 94 (io), E15 95 (io)
part F pins: F1 101 (io), F2 102 (io), F3 103 (io), F4 104 (io), F5 105 (io), F6 106 (io), F7 107 (io), F8 108 (io), F9 109 (io), F10 110 (io), F11 111 (io), F12 112 (io), F13 113 (io), F14 114 (io), F15 115 (io)
part G pins: G1 121 (io), G2 122 (io), G3 123 (io), G4 124 (io), G5 125 (io), G6 126 (io), G7 127 (io), G8 128 (io), G9 129 (io), G10 130 (io), G11 131 (io), G12 132 (io), G13 133 (io), G14 134 (io), G15 135 (io)
part H pins: H1 141 (io), H2 142 (io), H3 143 (io), H4 144 (io), H5 145 (io), H6 146 (io), H7 147 (io), H8 148 (io), H9 149 (io), H10 150 (io), H11 151 (io), H12 152 (io), H13 153 (io), H14 154 (io), H15 155 (io)
part I pins: J1 161 (io), J2 162 (io), J3 163 (io), J4 164 (io), J5 165 (io), J6 166 (io), J7 167 (io), J8 168 (io), J9 169 (io), J10 170 (io), J11 171 (io), J12 172 (io), J13 173 (io), J14 174 (io), J15 175 (io)
part J pins: K1 181 (io), K2 182 (io), K3 183 (io), K4 184 (io), K5 185 (io), K6 186 (io), K7 187 (io), K8 188 (io), K9 189 (io), K10 190 (io), K11 191 (io), K12 192 (io), K13 193 (io), K14 194 (io), K15 195 (io)
part K pins: L1 201 (io), L2 202 (io), L3 203 (io), L4 204 (io), L5 205 (io), L6 206 (io), L7 207 (io), L8 208 (io), L9 209 (io), L10 210 (io), L11 211 (io), L12 212 (io), L13 213 (io), L14 214 (io), L15 215 (io)
part L pins: M1 221 (io), M2 222 (io), M3 223 (io), M4 224 (io), M5 225 (io), M6 226 (io), M7 227 (io), M8 228 (io), M9 229 (io), M10 230 (io), M11 231 (io), M12 232 (io), M13 233 (io), M14 234 (io), M15 235 (io)
part M pins: N1 241 (io), N2 242 (io), N3 243 (io), N4 244 (io), N5 245 (io), N6 246 (io), N7 247 (io), N8 248 (io), N9 249 (io), N10 250 (io), N11 251 (io), N12 252 (io), N13 253 (io), N14 254 (io), N15 255 (io)
part N pins: P1 261 (io), P2 262 (io), P3 263 (io), P4 264 (io), P5 265 (io), P6 266 (io), P7 267 (io), P8 268 (io), P9 269 (io), P10 270 (io), P11 271 (io), P12 272 (io), P13 273 (io), P14 274 (io), P15 275 (io)
part O pins: R1 281 (io), R2 282 (io), R3 283 (io), R4 284 (io), R5 285 (io), R6 286 (io), R7 287 (io), R8 288 (io), R9 289 (io), R10 290 (io), R11 291 (io), R12 292 (io), R13 293 (io), R14 294 (io), R15 295 (io)
part A text: SOCKET
part B text: SOCKET
part C text: SOCKET
part D text: SOCKET
part E text: SOCKET
part F text: SOCKET
part G text: SOCKET
part H text: SOCKET
part I text: SOCKET
part J text: SOCKET
part K text: SOCKET
part L text: SOCKET
part M text: SOCKET
part N text: SOCKET
part O text: SOCKET

## PLCCS20
designator SK?
20 Leads PLCC Socket
pins: 1 (io), 2 (io), 3 (io), 4 (io), 5 (io), 6 (io), 7 (io), 8 (io), 9 (io), 10 (io), 11 (io), 12 (io), 13 (io), 14 (io), 15 (io), 16 (io), 17 (io), 18 (io), 19 (io), 20 (io)
text: SOCKET

## PLCCS28
designator SK?
28 Leads PLCC Socket
pins: 1 (io), 2 (io), 3 (io), 4 (io), 5 (io), 6 (io), 7 (io), 8 (io), 9 (io), 10 (io), 11 (io), 12 (io), 13 (io), 14 (io), 15 (io), 16 (io), 17 (io), 18 (io), 19 (io), 20 (io), 21 (io), 22 (io), 23 (io), 24 (io), 25 (io), 26 (io), 27 (io), 28 (io)
text: SOCKET

## PLCCS28_a
designator SK?
28 Leads PLCC Socket
part A pins: 1 (io), 2 (io), 3 (io), 4 (io), 26 (io), 27 (io), 28 (io)
part B pins: 5 (io), 6 (io), 7 (io), 8 (io), 9 (io), 10 (io), 11 (io)
part C pins: 12 (io), 13 (io), 14 (io), 15 (io), 16 (io), 17 (io), 18 (io)
part D pins: 19 (io), 20 (io), 21 (io), 22 (io), 23 (io), 24 (io), 25 (io)
part A text: SOCKET
part B text: SOCKET
part C text: SOCKET
part D text: SOCKET

## PLCCS44
designator SK?
44 Leads PLCC Socket
pins: 1 (io), 2 (io), 3 (io), 4 (io), 5 (io), 6 (io), 7 (io), 8 (io), 9 (io), 10 (io), 11 (io), 12 (io), 13 (io), 14 (io), 15 (io), 16 (io), 17 (io), 18 (io), 19 (io), 20 (io), 21 (io), 22 (io), 23 (io), 24 (io), 25 (io), 26 (io), 27 (io), 28 (io), 29 (io), 30 (io), 31 (io), 32 (io), 33 (io), 34 (io), 35 (io), 36 (io), 37 (io), 38 (io), 39 (io), 40 (io), 41 (io), 42 (io), 43 (io), 44 (io)
text: SOCKET

## PLCCS44_a
designator SK?
44 Leads PLCC Socket
part A pins: 1 (io), 2 (io), 3 (io), 4 (io), 5 (io), 6 (io), 7 (io), 8 (io), 9 (io), 10 (io), 11 (io)
part B pins: 12 (io), 13 (io), 14 (io), 15 (io), 16 (io), 17 (io), 18 (io), 19 (io), 20 (io), 21 (io), 22 (io)
part C pins: 23 (io), 24 (io), 25 (io), 26 (io), 27 (io), 28 (io), 29 (io), 30 (io), 31 (io), 32 (io), 33 (io)
part D pins: 34 (io), 35 (io), 36 (io), 37 (io), 38 (io), 39 (io), 40 (io), 41 (io), 42 (io), 43 (io), 44 (io)
part A text: SOCKET
part B text: SOCKET
part C text: SOCKET
part D text: SOCKET

## QFN32 Socket
designator SK?
32 Pin QFN Socket
part A pins: 1 (io), 2 (io), 3 (io), 4 (io), 5 (io), 6 (io), 7 (io), 8 (io)
part B pins: 9 (io), 10 (io), 11 (io), 12 (io), 13 (io), 14 (io), 15 (io), 16 (io)
part C pins: 17 (io), 18 (io), 19 (io), 20 (io), 21 (io), 22 (io), 23 (io), 24 (io)
part D pins: 25 (io), 26 (io), 27 (io), 28 (io), 29 (io), 30 (io), 31 (io), 32 (io), 33 (io)
1 alternate drawing of the same symbol
part A text: QFN 56 SOCKET
part B text: QFN 56 SOCKET
part C text: QFN 32 SOCKET
part D text: QFN 32 SOCKET; EP; PIN

## QFN56 Socket
designator SK?
56 Pin QFN Socket
part A pins: 1 (io), 2 (io), 3 (io), 4 (io), 5 (io), 6 (io), 7 (io), 8 (io), 9 (io), 10 (io), 11 (io), 12 (io), 13 (io), 14 (io)
part B pins: 15 (io), 16 (io), 17 (io), 18 (io), 19 (io), 20 (io), 21 (io), 22 (io), 23 (io), 24 (io), 25 (io), 26 (io), 27 (io), 28 (io)
part C pins: 29 (io), 30 (io), 31 (io), 32 (io), 33 (io), 34 (io), 35 (io), 36 (io), 37 (io), 38 (io), 39 (io), 40 (io), 41 (io), 42 (io)
part D pins: 43 (io), 44 (io), 45 (io), 46 (io), 47 (io), 48 (io), 49 (io), 50 (io), 51 (io), 52 (io), 53 (io), 54 (io), 55 (io), 56 (io), 57 (io)
1 alternate drawing of the same symbol
part A text: QFN 56 SOCKET
part B text: QFN 56 SOCKET
part C text: QFN 56 SOCKET
part D text: QFN 56 SOCKET; GND; PIN

## QFP208 Socket
designator SK?
QFP 208 Pin Socket
part A pins: 1 (io), 2 (io), 3 (io), 4 (io), 5 (io), 6 (io), 7 (io), 8 (io), 9 (io), 10 (io), 11 (io), 12 (io), 13 (io), 14 (io), 15 (io), 16 (io), 17 (io), 18 (io), 19 (io), 20 (io), 21 (io), 22 (io), 23 (io), 24 (io), 25 (io), 26 (io), 27 (io), 28 (io), 29 (io), 30 (io), 31 (io), 32 (io), 33 (io), 34 (io), 35 (io), 36 (io), 37 (io), 38 (io), 39 (io), 40 (io), 41 (io), 42 (io), 43 (io), 44 (io), 45 (io), 46 (io), 47 (io), 48 (io), 49 (io), 50 (io), 51 (io), 52 (io)
part B pins: 53 (io), 54 (io), 55 (io), 56 (io), 57 (io), 58 (io), 59 (io), 60 (io), 61 (io), 62 (io), 63 (io), 64 (io), 65 (io), 66 (io), 67 (io), 68 (io), 69 (io), 70 (io), 71 (io), 72 (io), 73 (io), 74 (io), 75 (io), 76 (io), 77 (io), 78 (io), 79 (io), 80 (io), 81 (io), 82 (io), 83 (io), 84 (io), 85 (io), 86 (io), 87 (io), 88 (io), 89 (io), 90 (io), 91 (io), 92 (io), 93 (io), 94 (io), 95 (io), 96 (io), 97 (io), 98 (io), 99 (io), 100 (io), 101 (io), 102 (io), 103 (io), 104 (io)
part C pins: 105 (io), 106 (io), 107 (io), 108 (io), 109 (io), 110 (io), 111 (io), 112 (io), 113 (io), 114 (io), 115 (io), 116 (io), 117 (io), 118 (io), 119 (io), 120 (io), 121 (io), 122 (io), 123 (io), 124 (io), 125 (io), 126 (io), 127 (io), 128 (io), 129 (io), 130 (io), 131 (io), 132 (io), 133 (io), 134 (io), 135 (io), 136 (io), 137 (io), 138 (io), 139 (io), 140 (io), 141 (io), 142 (io), 143 (io), 144 (io), 145 (io), 146 (io), 147 (io), 148 (io), 149 (io), 150 (io), 151 (io), 152 (io), 153 (io), 154 (io), 155 (io), 156 (io)
part D pins: 157 (io), 158 (io), 159 (io), 160 (io), 161 (io), 162 (io), 163 (io), 164 (io), 165 (io), 166 (io), 167 (io), 168 (io), 169 (io), 170 (io), 171 (io), 172 (io), 173 (io), 174 (io), 175 (io), 176 (io), 177 (io), 178 (io), 179 (io), 180 (io), 181 (io), 182 (io), 183 (io), 184 (io), 185 (io), 186 (io), 187 (io), 188 (io), 189 (io), 190 (io), 191 (io), 192 (io), 193 (io), 194 (io), 195 (io), 196 (io), 197 (io), 198 (io), 199 (io), 200 (io), 201 (io), 202 (io), 203 (io), 204 (io), 205 (io), 206 (io), 207 (io), 208 (io)
1 alternate drawing of the same symbol
part A text: QFP208 SOCKET
part B text: QFP208 SOCKET
part C text: QFP208 SOCKET
part D text: QFP208 SOCKET

## RAFI_5.05.510.644-0000
designator SK?
PCB plug-in socket, 10 contacts, RAFIX 16 Serie
pins: 1 (io), 2 (io), 3 (io), 4 (io), 5 (io), 6 (io), 7 (io), 8 (io), 9 (io), 10 (io)

## SIPS4
designator SK?
SIP Socket 4 Leads
pins: 1 (io), 2 (io), 3 (io), 4 (io)
text: SOCKET

## SIPS20
designator SK?
SIP Socket 20 Leads
pins: 1 (io), 2 (io), 3 (io), 4 (io), 5 (io), 6 (io), 7 (io), 8 (io), 9 (io), 10 (io), 11 (io), 12 (io), 13 (io), 14 (io), 15 (io), 16 (io), 17 (io), 18 (io), 19 (io), 20 (io)
text: SOCKET

## SOCKET Clam NoPin
designator SK?
Socket Clam
text: CLAM

## SOCKET NoPin
designator SK?
Socket
text: SOCKET

## SOCKET NoPin+C
designator SK?
DIL Socket with Decoupling Capacitor
text: SOCKET

## TO5-4 Spacer
designator SK?
4 Holes TO-5 Spacer
text: TO5; SPACER

## TO18-4 Spacer
designator SK?
4 Holes TO18 Spacer
text: TO18; SPACER

## TO-XX-3 Transistor Socket
designator SK?
3 Pin TO-XX Transistor Socket
pins: 1 (io), 2 (io), 3 (io)
text: SOCKET

## TSOP44 Socket
designator SK?
44 Pin TSOP Socket
part A pins: 1 (io), 2 (io), 3 (io), 4 (io), 5 (io), 6 (io), 7 (io), 8 (io), 9 (io), 10 (io), 11 (io), 12 (io), 13 (io), 14 (io), 15 (io), 16 (io), 17 (io), 18 (io), 19 (io), 20 (io), 21 (io), 22 (io)
part B pins: 23 (io), 24 (io), 25 (io), 26 (io), 27 (io), 28 (io), 29 (io), 30 (io), 31 (io), 32 (io), 33 (io), 34 (io), 35 (io), 36 (io), 37 (io), 38 (io), 39 (io), 40 (io), 41 (io), 42 (io), 43 (io), 44 (io)
1 alternate drawing of the same symbol
part A text: SOP 44 SOCKET
part B text: SOP 44 SOCKET

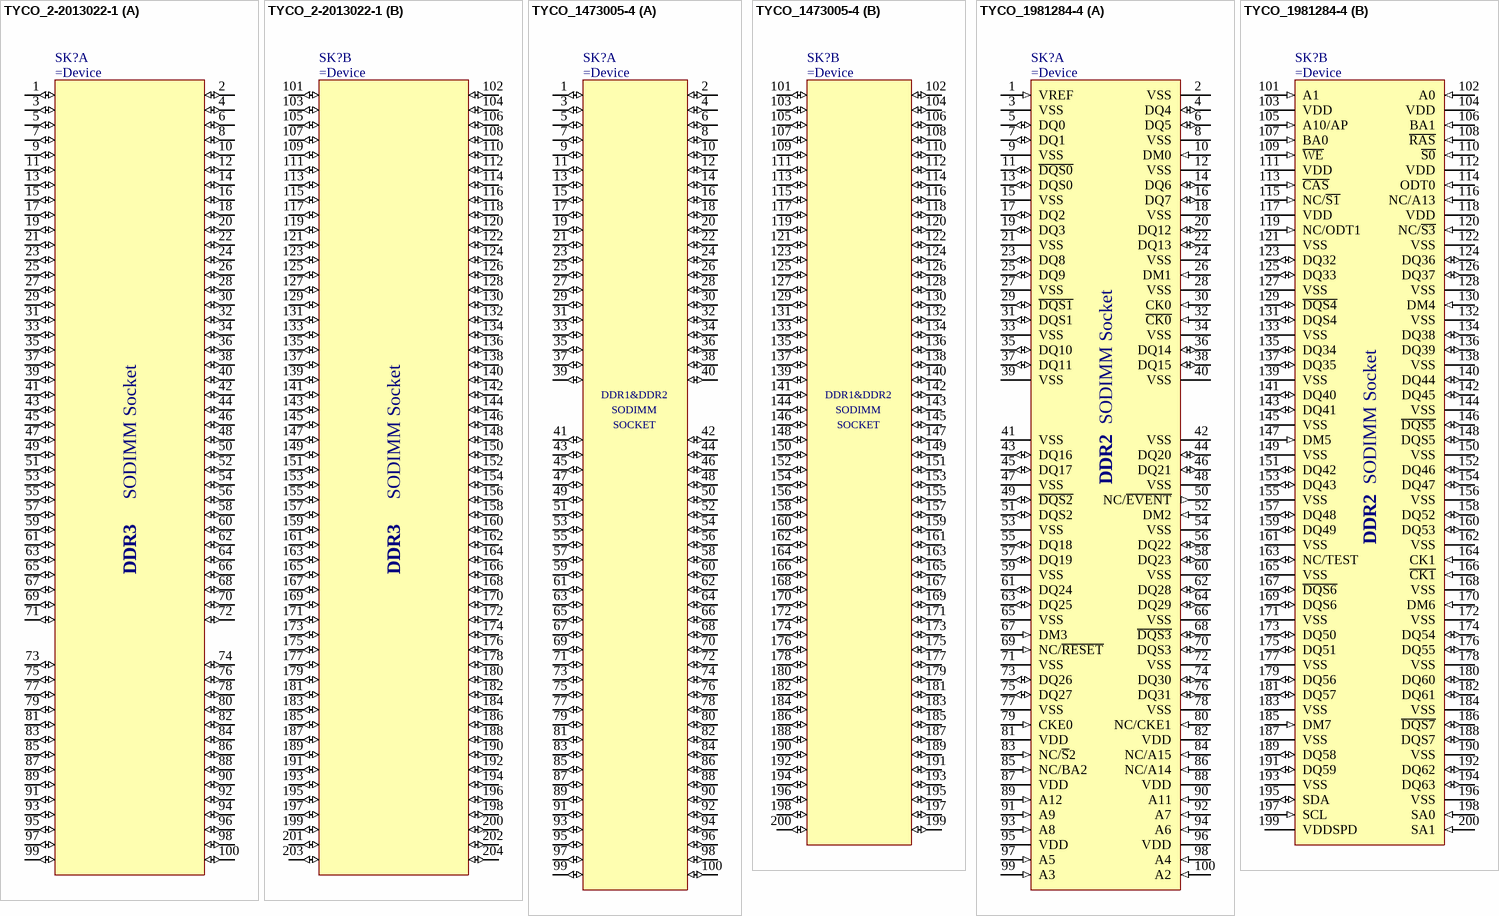
[diagram p4: symbols TYCO_2-2013022-1 to TYCO_1981284-4]

## TYCO_2-2013022-1
designator SK?
204 Positions SO DIMM DDR3 Socket
part A pins: 1 (io), 2 (io), 3 (io), 4 (io), 5 (io), 6 (io), 7 (io), 8 (io), 9 (io), 10 (io), 11 (io), 12 (io), 13 (io), 14 (io), 15 (io), 16 (io), 17 (io), 18 (io), 19 (io), 20 (io), 21 (io), 22 (io), 23 (io), 24 (io), 25 (io), 26 (io), 27 (io), 28 (io), 29 (io), 30 (io), 31 (io), 32 (io), 33 (io), 34 (io), 35 (io), 36 (io), 37 (io), 38 (io), 39 (io), 40 (io), 41 (io), 42 (io), 43 (io), 44 (io), 45 (io), 46 (io), 47 (io), 48 (io), 49 (io), 50 (io), 51 (io), 52 (io), 53 (io), 54 (io), 55 (io), 56 (io), 57 (io), 58 (io), 59 (io), 60 (io), 61 (io), 62 (io), 63 (io), 64 (io), 65 (io), 66 (io), 67 (io), 68 (io), 69 (io), 70 (io), 71 (io), 72 (io), 73 (io), 74 (io), 75 (io), 76 (io), 77 (io), 78 (io), 79 (io), 80 (io), 81 (io), 82 (io), 83 (io), 84 (io), 85 (io), 86 (io), 87 (io), 88 (io), 89 (io), 90 (io), 91 (io), 92 (io), 93 (io), 94 (io), 95 (io), 96 (io), 97 (io), 98 (io), 99 (io), 100 (io)
part B pins: 101 (io), 102 (io), 103 (io), 104 (io), 105 (io), 106 (io), 107 (io), 108 (io), 109 (io), 110 (io), 111 (io), 112 (io), 113 (io), 114 (io), 115 (io), 116 (io), 117 (io), 118 (io), 119 (io), 120 (io), 121 (io), 122 (io), 123 (io), 124 (io), 125 (io), 126 (io), 127 (io), 128 (io), 129 (io), 130 (io), 131 (io), 132 (io), 133 (io), 134 (io), 135 (io), 136 (io), 137 (io), 138 (io), 139 (io), 140 (io), 141 (io), 142 (io), 143 (io), 144 (io), 145 (io), 146 (io), 147 (io), 148 (io), 149 (io), 150 (io), 151 (io), 152 (io), 153 (io), 154 (io), 155 (io), 156 (io), 157 (io), 158 (io), 159 (io), 160 (io), 161 (io), 162 (io), 163 (io), 164 (io), 165 (io), 166 (io), 167 (io), 168 (io), 169 (io), 170 (io), 171 (io), 172 (io), 173 (io), 174 (io), 175 (io), 176 (io), 177 (io), 178 (io), 179 (io), 180 (io), 181 (io), 182 (io), 183 (io), 184 (io), 185 (io), 186 (io), 187 (io), 188 (io), 189 (io), 190 (io), 191 (io), 192 (io), 193 (io), 194 (io), 195 (io), 196 (io), 197 (io), 198 (io), 199 (io), 200 (io), 201 (io), 202 (io), 203 (io), 204 (io)
part A text: SODIMM Socket; DDR3
part B text: SODIMM Socket; DDR3

## TYCO_1473005-4
designator SK?
DDR1&DDR2 SODIMM Socket 0.6mm Pitch 200 Positions
part A pins: 1 (io), 2 (io), 3 (io), 4 (io), 5 (io), 6 (io), 7 (io), 8 (io), 9 (io), 10 (io), 11 (io), 12 (io), 13 (io), 14 (io), 15 (io), 16 (io), 17 (io), 18 (io), 19 (io), 20 (io), 21 (io), 22 (io), 23 (io), 24 (io), 25 (io), 26 (io), 27 (io), 28 (io), 29 (io), 30 (io), 31 (io), 32 (io), 33 (io), 34 (io), 35 (io), 36 (io), 37 (io), 38 (io), 39 (io), 40 (io), 41 (io), 42 (io), 43 (io), 44 (io), 45 (io), 46 (io), 47 (io), 48 (io), 49 (io), 50 (io), 51 (io), 52 (io), 53 (io), 54 (io), 55 (io), 56 (io), 57 (io), 58 (io), 59 (io), 60 (io), 61 (io), 62 (io), 63 (io), 64 (io), 65 (io), 66 (io), 67 (io), 68 (io), 69 (io), 70 (io), 71 (io), 72 (io), 73 (io), 74 (io), 75 (io), 76 (io), 77 (io), 78 (io), 79 (io), 80 (io), 81 (io), 82 (io), 83 (io), 84 (io), 85 (io), 86 (io), 87 (io), 88 (io), 89 (io), 90 (io), 91 (io), 92 (io), 93 (io), 94 (io), 95 (io), 96 (io), 97 (io), 98 (io), 99 (io), 100 (io)
part B pins: 101 (io), 102 (io), 103 (io), 104 (io), 105 (io), 106 (io), 107 (io), 108 (io), 109 (io), 110 (io), 111 (io), 112 (io), 113 (io), 114 (io), 115 (io), 116 (io), 117 (io), 118 (io), 119 (io), 120 (io), 121 (io), 122 (io), 123 (io), 124 (io), 125 (io), 126 (io), 127 (io), 128 (io), 129 (io), 130 (io), 131 (io), 132 (io), 133 (io), 134 (io), 135 (io), 136 (io), 137 (io), 138 (io), 139 (io), 140 (io), 141 (io), 142 (io), 143 (io), 144 (io), 145 (io), 146 (io), 147 (io), 148 (io), 149 (io), 150 (io), 151 (io), 152 (io), 153 (io), 154 (io), 155 (io), 156 (io), 157 (io), 158 (io), 159 (io), 160 (io), 161 (io), 162 (io), 163 (io), 164 (io), 165 (io), 166 (io), 167 (io), 168 (io), 169 (io), 170 (io), 171 (io), 172 (io), 173 (io), 174 (io), 175 (io), 176 (io), 177 (io), 178 (io), 179 (io), 180 (io), 181 (io), 182 (io), 183 (io), 184 (io), 185 (io), 186 (io), 187 (io), 188 (io), 189 (io), 190 (io), 191 (io), 192 (io), 193 (io), 194 (io), 195 (io), 196 (io), 197 (io), 198 (io), 199 (io), 200 (io)
part A text: DDR1&DDR2; SODIMM; SOCKET
part B text: DDR1&DDR2; SODIMM; SOCKET

## TYCO_1981284-4
designator SK?
200 Positions SO DIMM DDR2 Socket
part A pins: 1 VREF (in), 2 VSS (power), 3 VSS (power), 4 DQ4 (io), 5 DQ0 (io), 6 DQ5 (io), 7 DQ1 (io), 8 VSS (power), 9 VSS (power), 10 DM0 (in), 11 ~{DQS0} (io), 12 VSS (power), 13 DQS0 (io), 14 DQ6 (io), 15 VSS (power), 16 DQ7 (io), 17 DQ2 (io), 18 VSS (power), 19 DQ3 (io), 20 DQ12 (io), 21 VSS (power), 22 DQ13 (io), 23 DQ8 (io), 24 VSS (power), 25 DQ9 (io), 26 DM1 (in), 27 VSS (power), 28 VSS (power), 29 ~{DQS1} (io), 30 CK0 (in), 31 DQS1 (io), 32 ~{CK0} (in), 33 VSS (power), 34 VSS (power), 35 DQ10 (io), 36 DQ14 (io), 37 DQ11 (io), 38 DQ15 (io), 39 VSS (power), 40 VSS (power), 41 VSS (power), 42 VSS (power), 43 DQ16 (io), 44 DQ20 (io), 45 DQ17 (io), 46 DQ21 (io), 47 VSS (power), 48 VSS (power), 49 ~{DQS2} (io), 50 NC/~{EVENT} (out), 51 DQS2 (io), 52 DM2 (in), 53 VSS (power), 54 VSS (power), 55 DQ18 (io), 56 DQ22 (io), 57 DQ19 (io), 58 DQ23 (io), 59 VSS (power), 60 VSS (power), 61 DQ24 (io), 62 DQ28 (io), 63 DQ25 (io), 64 DQ29 (io), 65 VSS (power), 66 VSS (power), 67 DM3 (in), 68 ~{DQS3} (io), 69 NC/~{RESET} (in), 70 DQS3 (io), 71 VSS (power), 72 VSS (power), 73 DQ26 (io), 74 DQ30 (io), 75 DQ27 (io), 76 DQ31 (io), 77 VSS (power), 78 VSS (power), 79 CKE0 (in), 80 NC/CKE1 (in), 81 VDD (power), 82 VDD (power), 83 NC/~{S}2 (in), 84 NC/A15 (in), 85 NC/BA2 (in), 86 NC/A14 (in), 87 VDD (power), 88 VDD (power), 89 A12 (in), 90 A11 (in), 91 A9 (in), 92 A7 (in), 93 A8 (in), 94 A6 (in), 95 VDD (power), 96 VDD (power), 97 A5 (in), 98 A4 (in), 99 A3 (in), 100 A2 (in)
part B pins: 101 A1 (in), 102 A0 (in), 103 VDD (power), 104 VDD (power), 105 A10/AP (in), 106 BA1 (in), 107 BA0 (in), 108 ~{RAS} (in), 109 ~{WE} (in), 110 ~{S0} (in), 111 VDD (power), 112 VDD (power), 113 ~{CAS} (in), 114 ODT0 (in), 115 NC/~{S1} (in), 116 NC/A13 (in), 117 VDD (power), 118 VDD (power), 119 NC/ODT1 (in), 120 NC/~{S3} (in), 121 VSS (power), 122 VSS (power), 123 DQ32 (io), 124 DQ36 (io), 125 DQ33 (io), 126 DQ37 (io), 127 VSS (power), 128 VSS (power), 129 ~{DQS4} (io), 130 DM4 (in), 131 DQS4 (io), 132 VSS (power), 133 VSS (power), 134 DQ38 (io), 135 DQ34 (io), 136 DQ39 (io), 137 DQ35 (io), 138 VSS (power), 139 VSS (power), 140 DQ44 (io), 141 DQ40 (io), 142 DQ45 (io), 143 DQ41 (io), 144 VSS (power), 145 VSS (power), 146 ~{DQS5} (io), 147 DM5 (in), 148 DQS5 (io), 149 VSS (power), 150 VSS (power), 151 DQ42 (io), 152 DQ46 (io), 153 DQ43 (io), 154 DQ47 (io), 155 VSS (power), 156 VSS (power), 157 DQ48 (io), 158 DQ52 (io), 159 DQ49 (io), 160 DQ53 (io), 161 VSS (power), 162 VSS (power), 163 NC/TEST (io), 164 CK1 (in), 165 VSS (power), 166 ~{CK1} (in), 167 ~{DQS6} (io), 168 VSS (power), 169 DQS6 (io), 170 DM6 (in), 171 VSS (power), 172 VSS (power), 173 DQ50 (io), 174 DQ54 (io), 175 DQ51 (io), 176 DQ55 (io), 177 VSS (power), 178 VSS (power), 179 DQ56 (io), 180 DQ60 (io), 181 DQ57 (io), 182 DQ61 (io), 183 VSS (power), 184 VSS (power), 185 DM7 (in), 186 ~{DQS7} (io), 187 VSS (power), 188 DQS7 (io), 189 DQ58 (io), 190 VSS (power), 191 DQ59 (io), 192 DQ62 (io), 193 VSS (power), 194 DQ63 (io), 195 SDA (io), 196 VSS (power), 197 SCL (in), 198 SA0 (in), 199 VDDSPD (power), 200 SA1 (in)
part A text: SODIMM Socket; DDR2
part B text: SODIMM Socket; DDR2

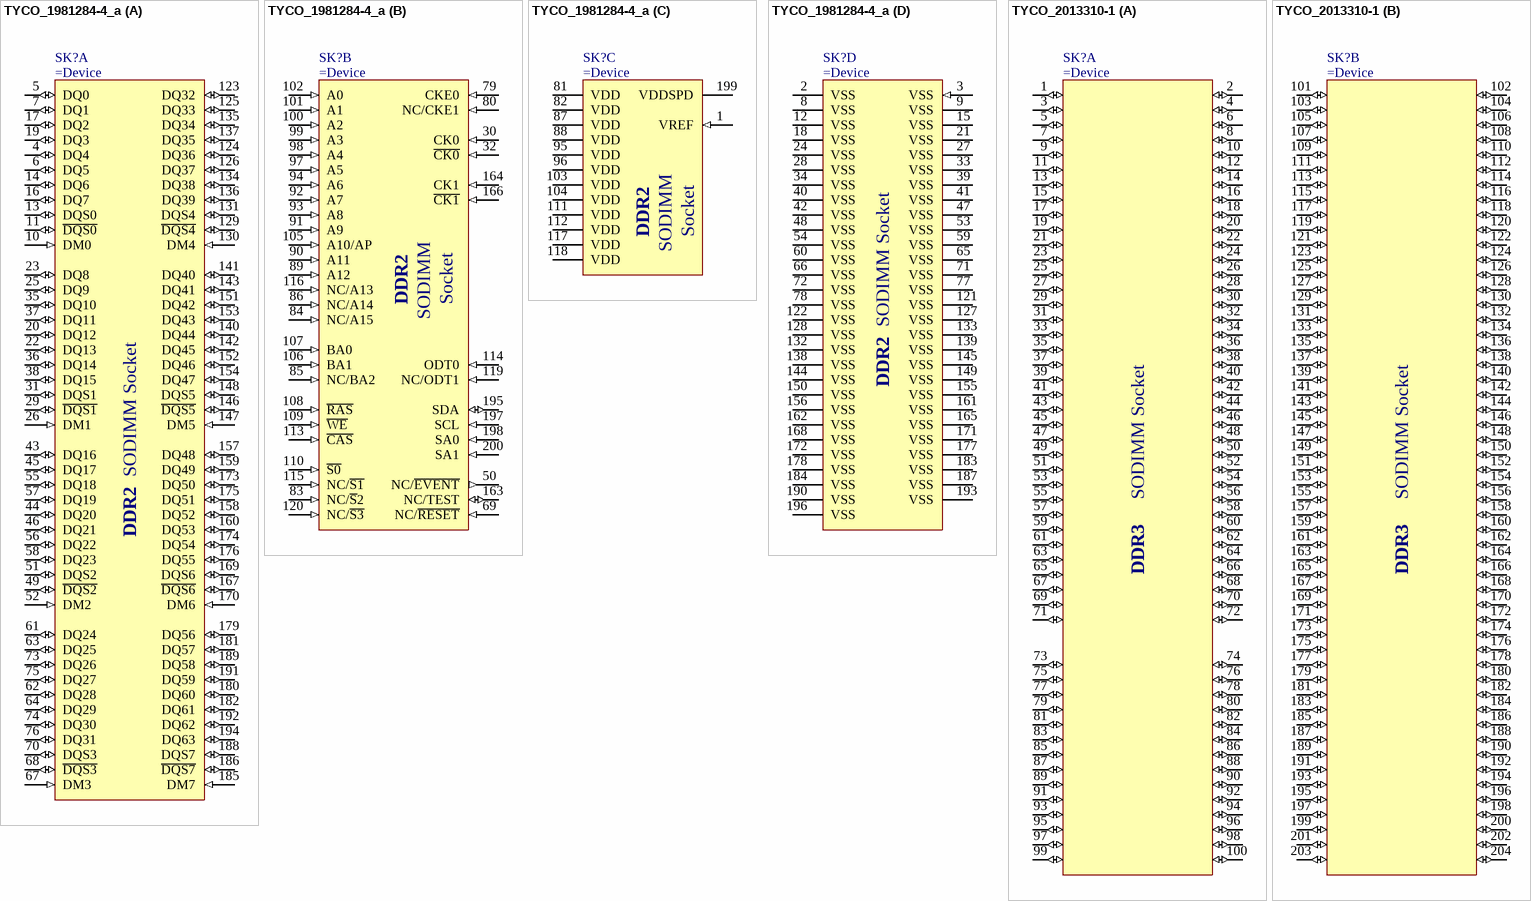
[diagram p5: symbols TYCO_1981284-4_a to TYCO_2013310-1]

## TYCO_1981284-4_a
designator SK?
200 Positions SO DIMM DDR2 Socket
part A pins: 4 DQ4 (io), 5 DQ0 (io), 6 DQ5 (io), 7 DQ1 (io), 10 DM0 (in), 11 ~{DQS0} (io), 13 DQS0 (io), 14 DQ6 (io), 16 DQ7 (io), 17 DQ2 (io), 19 DQ3 (io), 20 DQ12 (io), 22 DQ13 (io), 23 DQ8 (io), 25 DQ9 (io), 26 DM1 (in), 29 ~{DQS1} (io), 31 DQS1 (io), 35 DQ10 (io), 36 DQ14 (io), 37 DQ11 (io), 38 DQ15 (io), 43 DQ16 (io), 44 DQ20 (io), 45 DQ17 (io), 46 DQ21 (io), 49 ~{DQS2} (io), 51 DQS2 (io), 52 DM2 (in), 55 DQ18 (io), 56 DQ22 (io), 57 DQ19 (io), 58 DQ23 (io), 61 DQ24 (io), 62 DQ28 (io), 63 DQ25 (io), 64 DQ29 (io), 67 DM3 (in), 68 ~{DQS3} (io), 70 DQS3 (io), 73 DQ26 (io), 74 DQ30 (io), 75 DQ27 (io), 76 DQ31 (io), 123 DQ32 (io), 124 DQ36 (io), 125 DQ33 (io), 126 DQ37 (io), 129 ~{DQS4} (io), 130 DM4 (in), 131 DQS4 (io), 134 DQ38 (io), 135 DQ34 (io), 136 DQ39 (io), 137 DQ35 (io), 140 DQ44 (io), 141 DQ40 (io), 142 DQ45 (io), 143 DQ41 (io), 146 ~{DQS5} (io), 147 DM5 (in), 148 DQS5 (io), 151 DQ42 (io), 152 DQ46 (io), 153 DQ43 (io), 154 DQ47 (io), 157 DQ48 (io), 158 DQ52 (io), 159 DQ49 (io), 160 DQ53 (io), 167 ~{DQS6} (io), 169 DQS6 (io), 170 DM6 (in), 173 DQ50 (io), 174 DQ54 (io), 175 DQ51 (io), 176 DQ55 (io), 179 DQ56 (io), 180 DQ60 (io), 181 DQ57 (io), 182 DQ61 (io), 185 DM7 (in), 186 ~{DQS7} (io), 188 DQS7 (io), 189 DQ58 (io), 191 DQ59 (io), 192 DQ62 (io), 194 DQ63 (io)
part B pins: 30 CK0 (in), 32 ~{CK0} (in), 50 NC/~{EVENT} (out), 69 NC/~{RESET} (in), 79 CKE0 (in), 80 NC/CKE1 (in), 83 NC/~{S}2 (in), 84 NC/A15 (in), 85 NC/BA2 (in), 86 NC/A14 (in), 89 A12 (in), 90 A11 (in), 91 A9 (in), 92 A7 (in), 93 A8 (in), 94 A6 (in), 97 A5 (in), 98 A4 (in), 99 A3 (in), 100 A2 (in), 101 A1 (in), 102 A0 (in), 105 A10/AP (in), 106 BA1 (in), 107 BA0 (in), 108 ~{RAS} (in), 109 ~{WE} (in), 110 ~{S0} (in), 113 ~{CAS} (in), 114 ODT0 (in), 115 NC/~{S1} (in), 116 NC/A13 (in), 119 NC/ODT1 (in), 120 NC/~{S3} (in), 163 NC/TEST (io), 164 CK1 (in), 166 ~{CK1} (in), 195 SDA (io), 197 SCL (in), 198 SA0 (in), 200 SA1 (in)
part C pins: 1 VREF (in), 81 VDD (power), 82 VDD (power), 87 VDD (power), 88 VDD (power), 95 VDD (power), 96 VDD (power), 103 VDD (power), 104 VDD (power), 111 VDD (power), 112 VDD (power), 117 VDD (power), 118 VDD (power), 199 VDDSPD (power)
part D pins: 2 VSS (power), 3 VSS (in), 8 VSS (power), 9 VSS (power), 12 VSS (power), 15 VSS (power), 18 VSS (power), 21 VSS (power), 24 VSS (power), 27 VSS (power), 28 VSS (power), 33 VSS (power), 34 VSS (power), 39 VSS (power), 40 VSS (power), 41 VSS (power), 42 VSS (power), 47 VSS (power), 48 VSS (power), 53 VSS (power), 54 VSS (power), 59 VSS (power), 60 VSS (power), 65 VSS (power), 66 VSS (power), 71 VSS (power), 72 VSS (power), 77 VSS (power), 78 VSS (power), 121 VSS (power), 122 VSS (power), 127 VSS (power), 128 VSS (power), 132 VSS (power), 133 VSS (power), 138 VSS (power), 139 VSS (power), 144 VSS (power), 145 VSS (power), 149 VSS (power), 150 VSS (power), 155 VSS (power), 156 VSS (power), 161 VSS (power), 162 VSS (power), 165 VSS (power), 168 VSS (power), 171 VSS (power), 172 VSS (power), 177 VSS (power), 178 VSS (power), 183 VSS (power), 184 VSS (power), 187 VSS (power), 190 VSS (power), 193 VSS (power), 196 VSS (power)
part A text: SODIMM Socket; DDR2
part B text: DDR2; Socket; SODIMM
part C text: DDR2; Socket; SODIMM
part D text: SODIMM Socket; DDR2

## TYCO_2013310-1
designator SK?
204 Positions SO DIMM DDR3 Socket
part A pins: 1 (io), 2 (io), 3 (io), 4 (io), 5 (io), 6 (io), 7 (io), 8 (io), 9 (io), 10 (io), 11 (io), 12 (io), 13 (io), 14 (io), 15 (io), 16 (io), 17 (io), 18 (io), 19 (io), 20 (io), 21 (io), 22 (io), 23 (io), 24 (io), 25 (io), 26 (io), 27 (io), 28 (io), 29 (io), 30 (io), 31 (io), 32 (io), 33 (io), 34 (io), 35 (io), 36 (io), 37 (io), 38 (io), 39 (io), 40 (io), 41 (io), 42 (io), 43 (io), 44 (io), 45 (io), 46 (io), 47 (io), 48 (io), 49 (io), 50 (io), 51 (io), 52 (io), 53 (io), 54 (io), 55 (io), 56 (io), 57 (io), 58 (io), 59 (io), 60 (io), 61 (io), 62 (io), 63 (io), 64 (io), 65 (io), 66 (io), 67 (io), 68 (io), 69 (io), 70 (io), 71 (io), 72 (io), 73 (io), 74 (io), 75 (io), 76 (io), 77 (io), 78 (io), 79 (io), 80 (io), 81 (io), 82 (io), 83 (io), 84 (io), 85 (io), 86 (io), 87 (io), 88 (io), 89 (io), 90 (io), 91 (io), 92 (io), 93 (io), 94 (io), 95 (io), 96 (io), 97 (io), 98 (io), 99 (io), 100 (io)
part B pins: 101 (io), 102 (io), 103 (io), 104 (io), 105 (io), 106 (io), 107 (io), 108 (io), 109 (io), 110 (io), 111 (io), 112 (io), 113 (io), 114 (io), 115 (io), 116 (io), 117 (io), 118 (io), 119 (io), 120 (io), 121 (io), 122 (io), 123 (io), 124 (io), 125 (io), 126 (io), 127 (io), 128 (io), 129 (io), 130 (io), 131 (io), 132 (io), 133 (io), 134 (io), 135 (io), 136 (io), 137 (io), 138 (io), 139 (io), 140 (io), 141 (io), 142 (io), 143 (io), 144 (io), 145 (io), 146 (io), 147 (io), 148 (io), 149 (io), 150 (io), 151 (io), 152 (io), 153 (io), 154 (io), 155 (io), 156 (io), 157 (io), 158 (io), 159 (io), 160 (io), 161 (io), 162 (io), 163 (io), 164 (io), 165 (io), 166 (io), 167 (io), 168 (io), 169 (io), 170 (io), 171 (io), 172 (io), 173 (io), 174 (io), 175 (io), 176 (io), 177 (io), 178 (io), 179 (io), 180 (io), 181 (io), 182 (io), 183 (io), 184 (io), 185 (io), 186 (io), 187 (io), 188 (io), 189 (io), 190 (io), 191 (io), 192 (io), 193 (io), 194 (io), 195 (io), 196 (io), 197 (io), 198 (io), 199 (io), 200 (io), 201 (io), 202 (io), 203 (io), 204 (io)
part A text: SODIMM Socket; DDR3
part B text: SODIMM Socket; DDR3